# Altium integrated library Xilinx Spartan-3E.IntLib: 220 symbols (part 14 of 28)
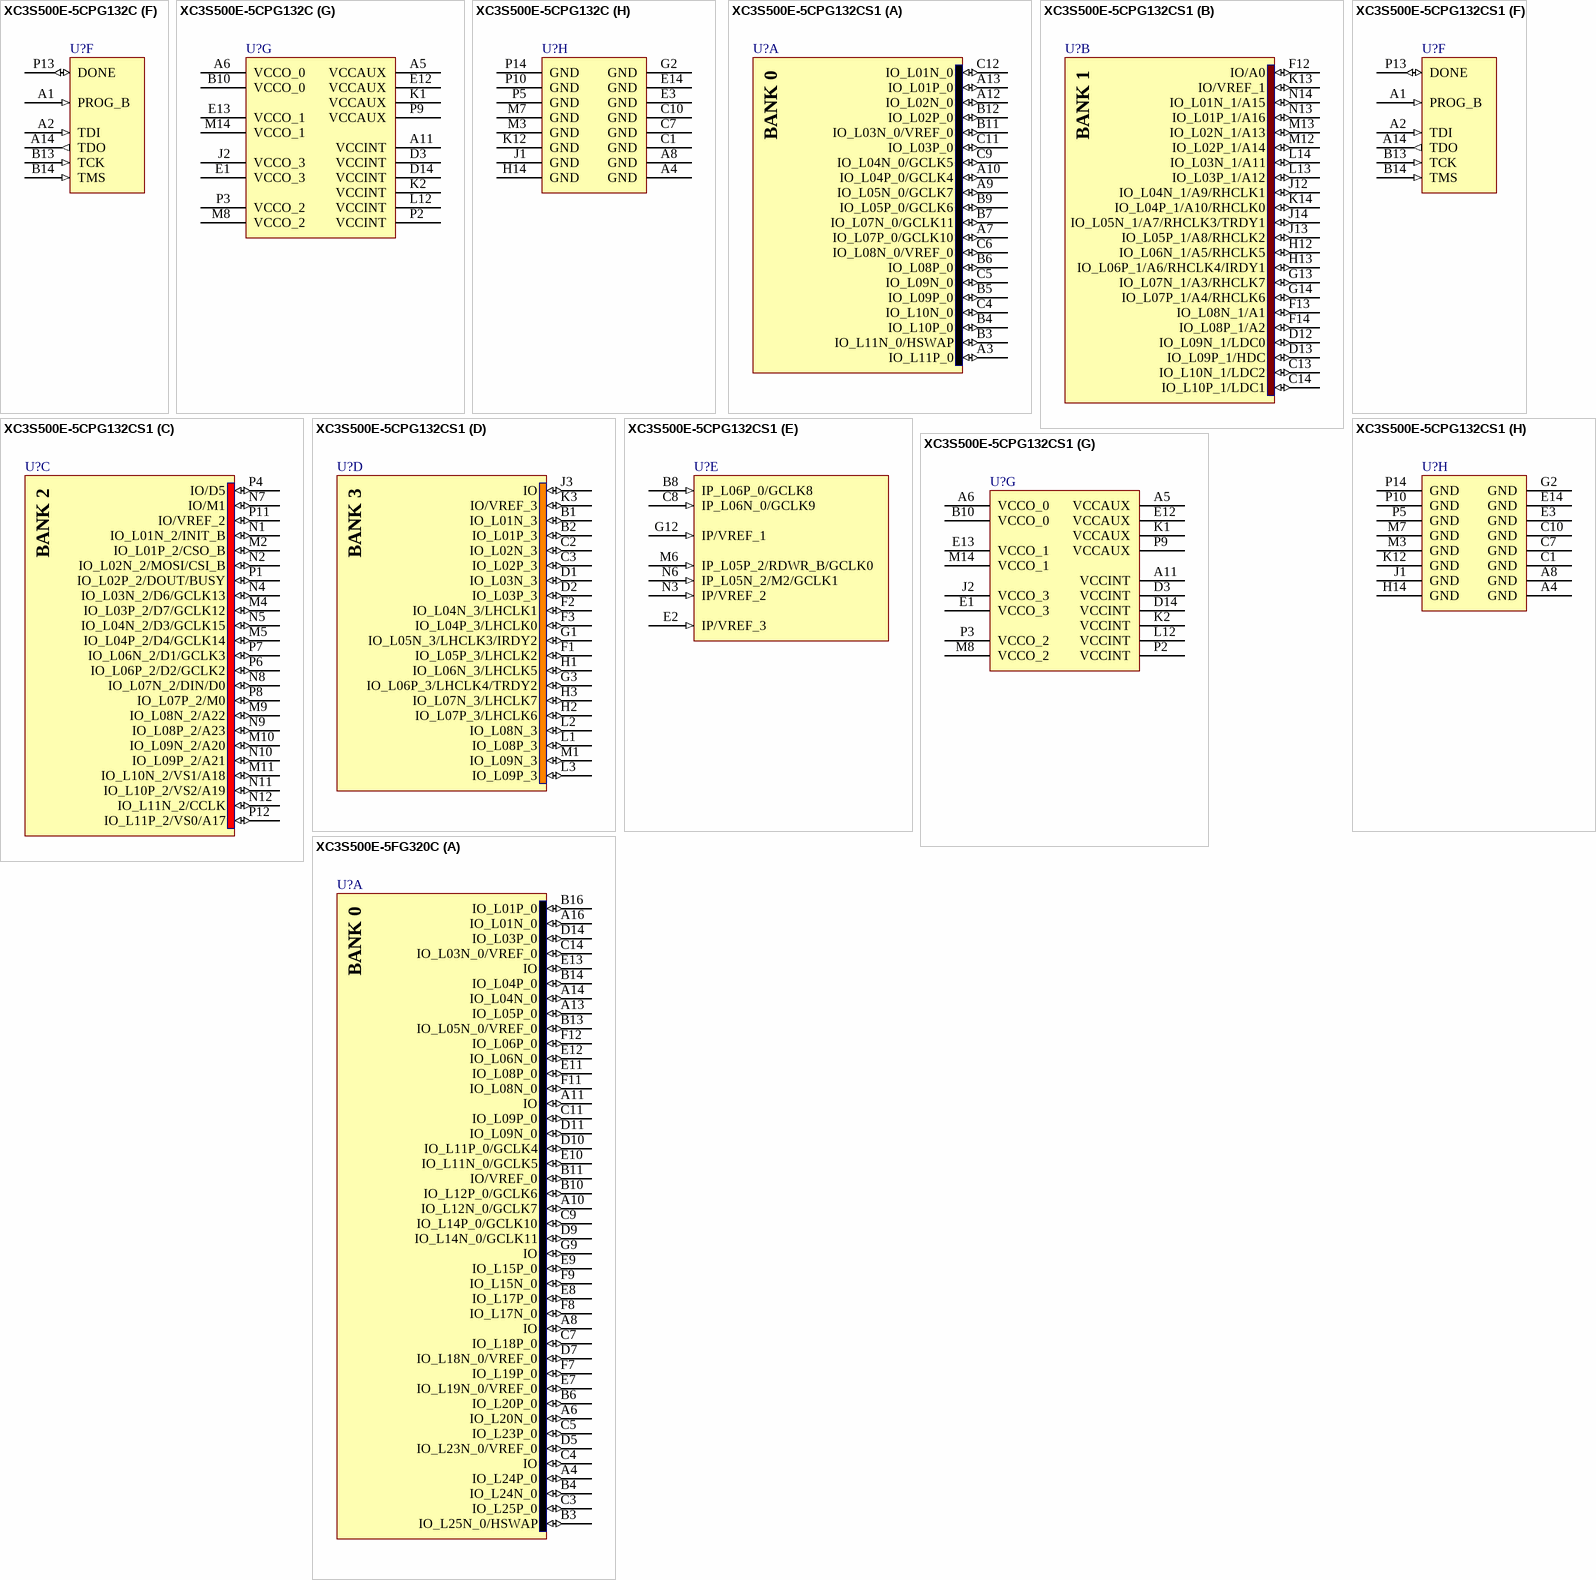
[diagram p207: symbols XC3S500E-5CPG132C to XC3S500E-5FG320C]

## XC3S500E-5CPG132CS1
designator U?
Spartan-3E 1.2V FPGA, 92 User I/Os, 132-Ball Chip-Scale BGA, High Performance, Commercial Grade, Stepping 1, Pb-Free; DatasheetVersion: ver3.8, Aug-2009; PackageVersion: ver1.3, Jun-2008; PackageReference: CPG132; PackageDescription: 132-Ball Chip Scale Ball Grid Array 0.5 mm Pitch (CPG132) - Pb-Free; ComponentLink1Description: Manufacturer URL; ComponentLink1URL: http://www.xilinx.com/; ComponentLink2Description: Spartan-3E Datasheet; ComponentLink2URL: http://www.xilinx.com/support/documentation/data_sheets/ds312.pdf; ComponentLink3Description: CPG132 Package Drawing; ComponentLink3URL: http://www.xilinx.com/support/documentation/package_specs/cp132.pdf; ComponentLink4Description: Spartan-3E Documents; ComponentLink4URL: http://www.xilinx.com/support/documentation/spartan-3e.htm
footprint CPG132 (BGA, 132-Leads, Body 8x8mm, Pitch 0.5mm)
part A pins: A3 IO_L11P_0 (io), A7 IO_L07P_0/GCLK10 (io), A9 IO_L05N_0/GCLK7 (io), A10 IO_L04P_0/GCLK4 (io), A12 IO_L02N_0 (io), A13 IO_L01P_0 (io), B3 IO_L11N_0/HSWAP (io), B4 IO_L10P_0 (io), B5 IO_L09P_0 (io), B6 IO_L08P_0 (io), B7 IO_L07N_0/GCLK11 (io), B9 IO_L05P_0/GCLK6 (io), B11 IO_L03N_0/VREF_0 (io), B12 IO_L02P_0 (io), C4 IO_L10N_0 (io), C5 IO_L09N_0 (io), C6 IO_L08N_0/VREF_0 (io), C9 IO_L04N_0/GCLK5 (io), C11 IO_L03P_0 (io), C12 IO_L01N_0 (io)
part B pins: C13 IO_L10N_1/LDC2 (io), C14 IO_L10P_1/LDC1 (io), D12 IO_L09N_1/LDC0 (io), D13 IO_L09P_1/HDC (io), F12 IO/A0 (io), F13 IO_L08N_1/A1 (io), F14 IO_L08P_1/A2 (io), G13 IO_L07N_1/A3/RHCLK7 (io), G14 IO_L07P_1/A4/RHCLK6 (io), H12 IO_L06N_1/A5/RHCLK5 (io), H13 IO_L06P_1/A6/RHCLK4/IRDY1 (io), J12 IO_L04N_1/A9/RHCLK1 (io), J13 IO_L05P_1/A8/RHCLK2 (io), J14 IO_L05N_1/A7/RHCLK3/TRDY1 (io), K13 IO/VREF_1 (io), K14 IO_L04P_1/A10/RHCLK0 (io), L13 IO_L03P_1/A12 (io), L14 IO_L03N_1/A11 (io), M12 IO_L02P_1/A14 (io), M13 IO_L02N_1/A13 (io), N13 IO_L01P_1/A16 (io), N14 IO_L01N_1/A15 (io)
part C pins: M2 IO_L01P_2/CSO_B (io), M4 IO_L03P_2/D7/GCLK12 (io), M5 IO_L04P_2/D4/GCLK14 (io), M9 IO_L08N_2/A22 (io), M10 IO_L09N_2/A20 (io), M11 IO_L10N_2/VS1/A18 (io), N1 IO_L01N_2/INIT_B (io), N2 IO_L02N_2/MOSI/CSI_B (io), N4 IO_L03N_2/D6/GCLK13 (io), N5 IO_L04N_2/D3/GCLK15 (io), N7 IO/M1 (io), N8 IO_L07N_2/DIN/D0 (io), N9 IO_L08P_2/A23 (io), N10 IO_L09P_2/A21 (io), N11 IO_L10P_2/VS2/A19 (io), N12 IO_L11N_2/CCLK (io), P1 IO_L02P_2/DOUT/BUSY (io), P4 IO/D5 (io), P6 IO_L06P_2/D2/GCLK2 (io), P7 IO_L06N_2/D1/GCLK3 (io), P8 IO_L07P_2/M0 (io), P11 IO/VREF_2 (io), P12 IO_L11P_2/VS0/A17 (io)
part D pins: B1 IO_L01N_3 (io), B2 IO_L01P_3 (io), C2 IO_L02N_3 (io), C3 IO_L02P_3 (io), D1 IO_L03N_3 (io), D2 IO_L03P_3 (io), F1 IO_L05P_3/LHCLK2 (io), F2 IO_L04N_3/LHCLK1 (io), F3 IO_L04P_3/LHCLK0 (io), G1 IO_L05N_3/LHCLK3/IRDY2 (io), G3 IO_L06P_3/LHCLK4/TRDY2 (io), H1 IO_L06N_3/LHCLK5 (io), H2 IO_L07P_3/LHCLK6 (io), H3 IO_L07N_3/LHCLK7 (io), J3 IO (io), K3 IO/VREF_3 (io), L1 IO_L08P_3 (io), L2 IO_L08N_3 (io), L3 IO_L09P_3 (io), M1 IO_L09N_3 (io)
part E pins: B8 IP_L06P_0/GCLK8 (in), C8 IP_L06N_0/GCLK9 (in), E2 IP/VREF_3 (in), G12 IP/VREF_1 (in), M6 IP_L05P_2/RDWR_B/GCLK0 (in), N3 IP/VREF_2 (in), N6 IP_L05N_2/M2/GCLK1 (in)
part F pins: A1 PROG_B (in), A2 TDI (in), A14 TDO (out), B13 TCK (in), B14 TMS (in), P13 DONE (io)
part G pins: A5 VCCAUX (power), A6 VCCO_0 (power), A11 VCCINT (power), B10 VCCO_0 (power), D3 VCCINT (power), D14 VCCINT (power), E1 VCCO_3 (power), E12 VCCAUX (power), E13 VCCO_1 (power), J2 VCCO_3 (power), K1 VCCAUX (power), K2 VCCINT (power), L12 VCCINT (power), M8 VCCO_2 (power), M14 VCCO_1 (power), P2 VCCINT (power), P3 VCCO_2 (power), P9 VCCAUX (power)
part H pins: A4 GND (power), A8 GND (power), C1 GND (power), C7 GND (power), C10 GND (power), E3 GND (power), E14 GND (power), G2 GND (power), H14 GND (power), J1 GND (power), K12 GND (power), M3 GND (power), M7 GND (power), P5 GND (power), P10 GND (power), P14 GND (power)
part A text: BANK 0
part B text: BANK 1
part C text: BANK 2
part D text: BANK 3

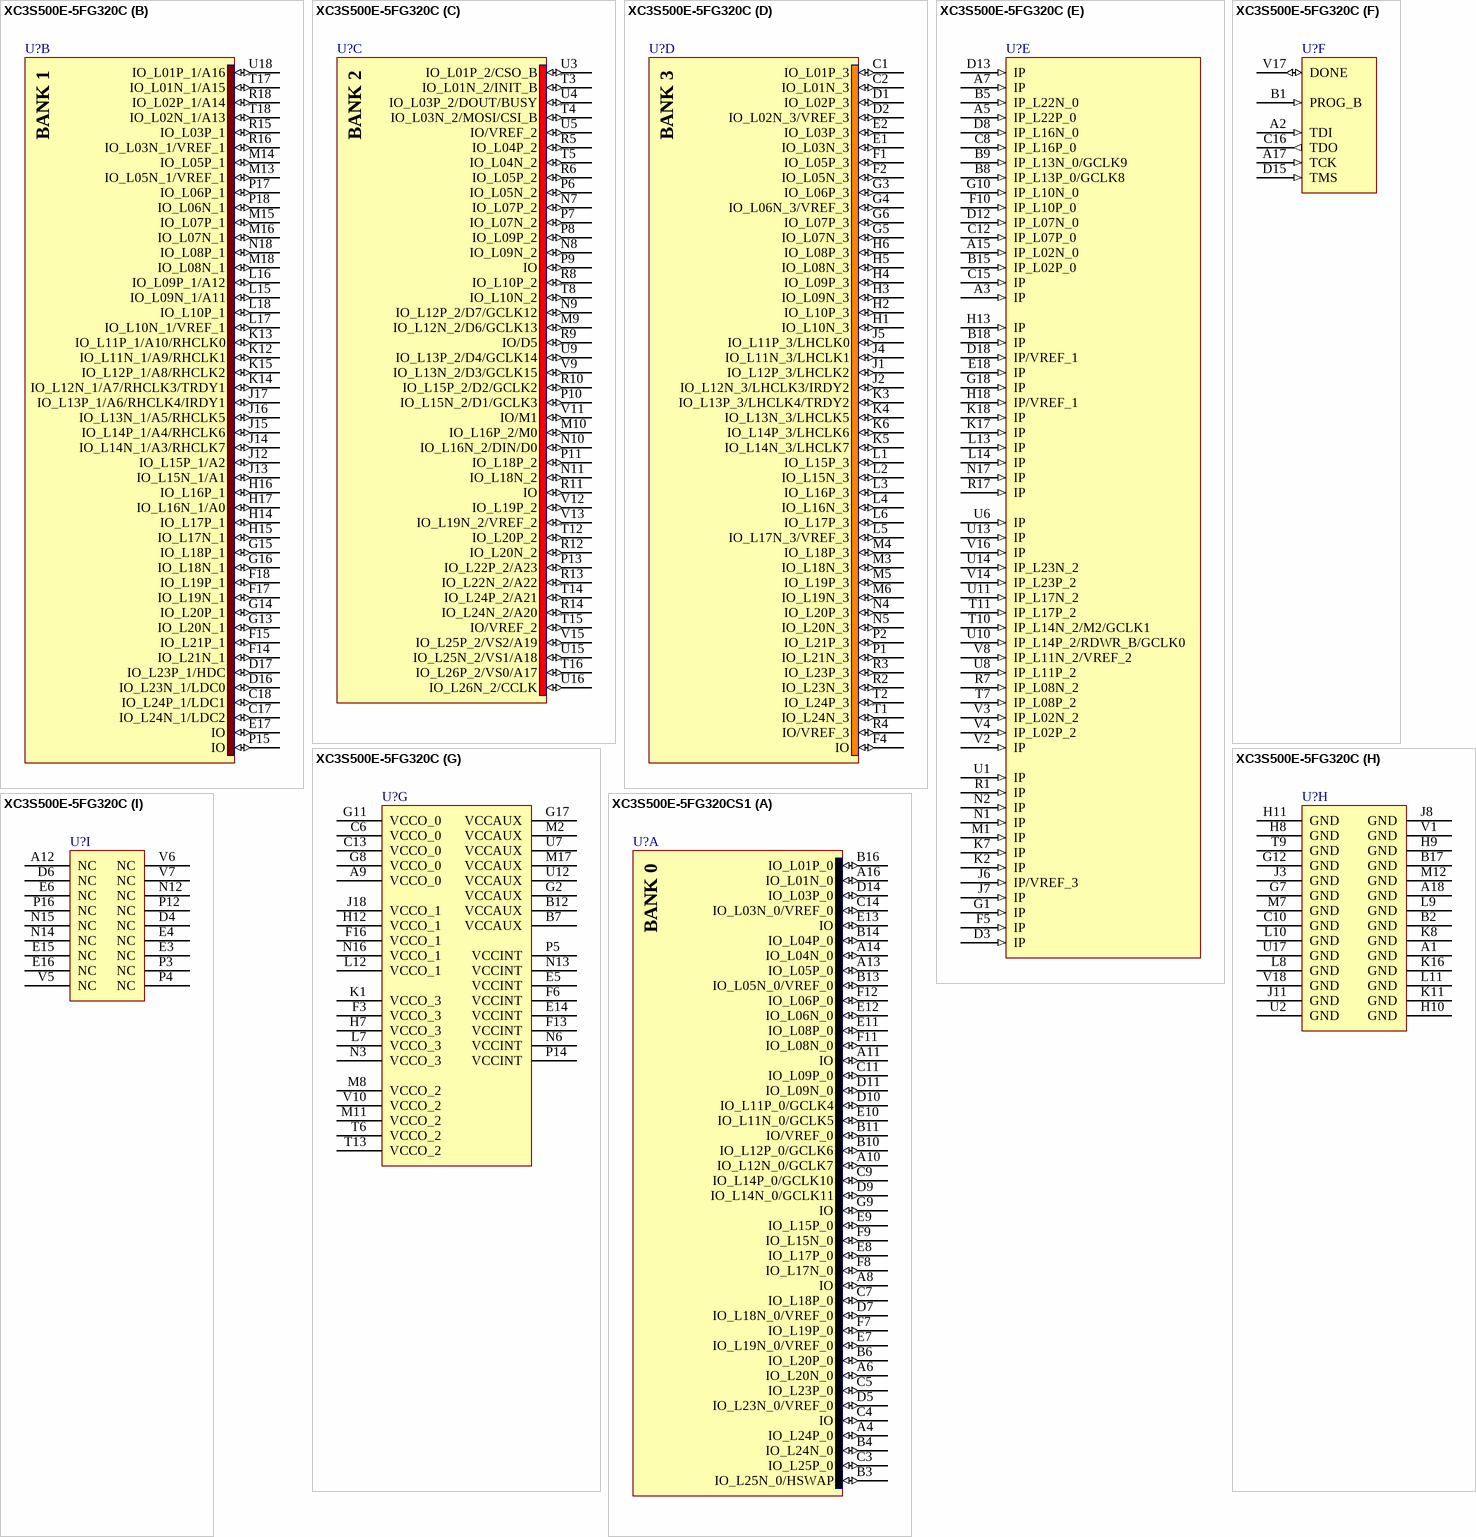
[diagram p82: symbols XC3S500E-5FG320C to XC3S500E-5FG320CS1]

## XC3S500E-5FG320C
designator U?
Spartan-3E 1.2V FPGA, 232 User I/Os, 320-Ball FBGA, High Performance, Commercial Grade; DatasheetVersion: ver3.8, Aug-2009; PackageVersion: ver1.2.1, Mar-2005; PackageReference: FG320; PackageDescription: 320-Ball Fine Pitch Ball Grid Array (FG320); Code_JEDEC: MS-034-AAG-1; ComponentLink1Description: Manufacturer URL; ComponentLink1URL: http://www.xilinx.com/; ComponentLink2Description: Spartan-3E Datasheet; ComponentLink2URL: http://www.xilinx.com/support/documentation/data_sheets/ds312.pdf; ComponentLink3Description: FG320 Package Drawing; ComponentLink3URL: http://www.xilinx.com/support/documentation/package_specs/fg320.pdf; ComponentLink4Description: Spartan-3E Documents; ComponentLink4URL: http://www.xilinx.com/support/documentation/spartan-3e.htm
footprint FG320 (BGA, 320-Leads, Body 19x19mm, Pitch 1mm)
part A pins: A4 IO_L24P_0 (io), A6 IO_L20N_0 (io), A8 IO (io), A10 IO_L12N_0/GCLK7 (io), A11 IO (io), A13 IO_L05P_0 (io), A14 IO_L04N_0 (io), A16 IO_L01N_0 (io), B3 IO_L25N_0/HSWAP (io), B4 IO_L24N_0 (io), B6 IO_L20P_0 (io), B10 IO_L12P_0/GCLK6 (io), B11 IO/VREF_0 (io), B13 IO_L05N_0/VREF_0 (io), B14 IO_L04P_0 (io), B16 IO_L01P_0 (io), C3 IO_L25P_0 (io), C4 IO (io), C5 IO_L23P_0 (io), C7 IO_L18P_0 (io), C9 IO_L14P_0/GCLK10 (io), C11 IO_L09P_0 (io), C14 IO_L03N_0/VREF_0 (io), D5 IO_L23N_0/VREF_0 (io), D7 IO_L18N_0/VREF_0 (io), D9 IO_L14N_0/GCLK11 (io), D10 IO_L11P_0/GCLK4 (io), D11 IO_L09N_0 (io), D14 IO_L03P_0 (io), E7 IO_L19N_0/VREF_0 (io), E8 IO_L17P_0 (io), E9 IO_L15P_0 (io), E10 IO_L11N_0/GCLK5 (io), E11 IO_L08P_0 (io), E12 IO_L06N_0 (io), E13 IO (io), F7 IO_L19P_0 (io), F8 IO_L17N_0 (io), F9 IO_L15N_0 (io), F11 IO_L08N_0 (io), F12 IO_L06P_0 (io), G9 IO (io)
part B pins: C17 IO_L24N_1/LDC2 (io), C18 IO_L24P_1/LDC1 (io), D16 IO_L23N_1/LDC0 (io), D17 IO_L23P_1/HDC (io), E17 IO (io), F14 IO_L21N_1 (io), F15 IO_L21P_1 (io), F17 IO_L19N_1 (io), F18 IO_L19P_1 (io), G13 IO_L20N_1 (io), G14 IO_L20P_1 (io), G15 IO_L18P_1 (io), G16 IO_L18N_1 (io), H14 IO_L17P_1 (io), H15 IO_L17N_1 (io), H16 IO_L16P_1 (io), H17 IO_L16N_1/A0 (io), J12 IO_L15P_1/A2 (io), J13 IO_L15N_1/A1 (io), J14 IO_L14N_1/A3/RHCLK7 (io), J15 IO_L14P_1/A4/RHCLK6 (io), J16 IO_L13N_1/A5/RHCLK5 (io), J17 IO_L13P_1/A6/RHCLK4/IRDY1 (io), K12 IO_L11N_1/A9/RHCLK1 (io), K13 IO_L11P_1/A10/RHCLK0 (io), K14 IO_L12N_1/A7/RHCLK3/TRDY1 (io), K15 IO_L12P_1/A8/RHCLK2 (io), L15 IO_L09N_1/A11 (io), L16 IO_L09P_1/A12 (io), L17 IO_L10N_1/VREF_1 (io), L18 IO_L10P_1 (io), M13 IO_L05N_1/VREF_1 (io), M14 IO_L05P_1 (io), M15 IO_L07P_1 (io), M16 IO_L07N_1 (io), M18 IO_L08N_1 (io), N18 IO_L08P_1 (io), P15 IO (io), P17 IO_L06P_1 (io), P18 IO_L06N_1 (io), R15 IO_L03P_1 (io), R16 IO_L03N_1/VREF_1 (io), R18 IO_L02P_1/A14 (io), T17 IO_L01N_1/A15 (io), T18 IO_L02N_1/A13 (io), U18 IO_L01P_1/A16 (io)
part C pins: M9 IO_L12N_2/D6/GCLK13 (io), M10 IO_L16P_2/M0 (io), N7 IO_L07P_2 (io), N8 IO_L09N_2 (io), N9 IO_L12P_2/D7/GCLK12 (io), N10 IO_L16N_2/DIN/D0 (io), N11 IO_L18N_2 (io), P6 IO_L05N_2 (io), P7 IO_L07N_2 (io), P8 IO_L09P_2 (io), P9 IO (io), P10 IO_L15N_2/D1/GCLK3 (io), P11 IO_L18P_2 (io), P13 IO_L22P_2/A23 (io), R5 IO_L04P_2 (io), R6 IO_L05P_2 (io), R8 IO_L10P_2 (io), R9 IO/D5 (io), R10 IO_L15P_2/D2/GCLK2 (io), R11 IO (io), R12 IO_L20N_2 (io), R13 IO_L22N_2/A22 (io), R14 IO_L24N_2/A20 (io), T3 IO_L01N_2/INIT_B (io), T4 IO_L03N_2/MOSI/CSI_B (io), T5 IO_L04N_2 (io), T8 IO_L10N_2 (io), T12 IO_L20P_2 (io), T14 IO_L24P_2/A21 (io), T15 IO/VREF_2 (io), T16 IO_L26P_2/VS0/A17 (io), U3 IO_L01P_2/CSO_B (io), U4 IO_L03P_2/DOUT/BUSY (io), U5 IO/VREF_2 (io), U9 IO_L13P_2/D4/GCLK14 (io), U15 IO_L25N_2/VS1/A18 (io), U16 IO_L26N_2/CCLK (io), V9 IO_L13N_2/D3/GCLK15 (io), V11 IO/M1 (io), V12 IO_L19P_2 (io), V13 IO_L19N_2/VREF_2 (io), V15 IO_L25P_2/VS2/A19 (io)
part D pins: C1 IO_L01P_3 (io), C2 IO_L01N_3 (io), D1 IO_L02P_3 (io), D2 IO_L02N_3/VREF_3 (io), E1 IO_L03N_3 (io), E2 IO_L03P_3 (io), F1 IO_L05P_3 (io), F2 IO_L05N_3 (io), F4 IO (io), G3 IO_L06P_3 (io), G4 IO_L06N_3/VREF_3 (io), G5 IO_L07N_3 (io), G6 IO_L07P_3 (io), H1 IO_L10N_3 (io), H2 IO_L10P_3 (io), H3 IO_L09N_3 (io), H4 IO_L09P_3 (io), H5 IO_L08N_3 (io), H6 IO_L08P_3 (io), J1 IO_L12P_3/LHCLK2 (io), J2 IO_L12N_3/LHCLK3/IRDY2 (io), J4 IO_L11N_3/LHCLK1 (io), J5 IO_L11P_3/LHCLK0 (io), K3 IO_L13P_3/LHCLK4/TRDY2 (io), K4 IO_L13N_3/LHCLK5 (io), K5 IO_L14N_3/LHCLK7 (io), K6 IO_L14P_3/LHCLK6 (io), L1 IO_L15P_3 (io), L2 IO_L15N_3 (io), L3 IO_L16P_3 (io), L4 IO_L16N_3 (io), L5 IO_L17N_3/VREF_3 (io), L6 IO_L17P_3 (io), M3 IO_L18N_3 (io), M4 IO_L18P_3 (io), M5 IO_L19P_3 (io), M6 IO_L19N_3 (io), N4 IO_L20P_3 (io), N5 IO_L20N_3 (io), P1 IO_L21N_3 (io), P2 IO_L21P_3 (io), R2 IO_L23N_3 (io), R3 IO_L23P_3 (io), R4 IO/VREF_3 (io), T1 IO_L24N_3 (io), T2 IO_L24P_3 (io)
part E pins: A3 IP (in), A5 IP_L22P_0 (in), A7 IP (in), A15 IP_L02N_0 (in), B5 IP_L22N_0 (in), B8 IP_L13P_0/GCLK8 (in), B9 IP_L13N_0/GCLK9 (in), B15 IP_L02P_0 (in), B18 IP (in), C8 IP_L16P_0 (in), C12 IP_L07P_0 (in), C15 IP (in), D3 IP (in), D8 IP_L16N_0 (in), D12 IP_L07N_0 (in), D13 IP (in), D18 IP/VREF_1 (in), E18 IP (in), F5 IP (in), F10 IP_L10P_0 (in), G1 IP (in), G10 IP_L10N_0 (in), G18 IP (in), H13 IP (in), H18 IP/VREF_1 (in), J6 IP/VREF_3 (in), J7 IP (in), K2 IP (in), K7 IP (in), K17 IP (in), K18 IP (in), L13 IP (in), L14 IP (in), M1 IP (in), N1 IP (in), N2 IP (in), N17 IP (in), R1 IP (in), R7 IP_L08N_2 (in), R17 IP (in), T7 IP_L08P_2 (in), T10 IP_L14N_2/M2/GCLK1 (in), T11 IP_L17P_2 (in), U1 IP (in), U6 IP (in), U8 IP_L11P_2 (in), U10 IP_L14P_2/RDWR_B/GCLK0 (in), U11 IP_L17N_2 (in), U13 IP (in), U14 IP_L23N_2 (in), V2 IP (in), V3 IP_L02N_2 (in), V4 IP_L02P_2 (in), V8 IP_L11N_2/VREF_2 (in), V14 IP_L23P_2 (in), V16 IP (in)
part F pins: A2 TDI (in), A17 TCK (in), B1 PROG_B (in), C16 TDO (out), D15 TMS (in), V17 DONE (io)
part G pins: A9 VCCO_0 (power), B7 VCCAUX (power), B12 VCCAUX (power), C6 VCCO_0 (power), C13 VCCO_0 (power), E5 VCCINT (power), E14 VCCINT (power), F3 VCCO_3 (power), F6 VCCINT (power), F13 VCCINT (power), F16 VCCO_1 (power), G2 VCCAUX (power), G8 VCCO_0 (power), G11 VCCO_0 (power), G17 VCCAUX (power), H7 VCCO_3 (power), H12 VCCO_1 (power), J18 VCCO_1 (power), K1 VCCO_3 (power), L7 VCCO_3 (power), L12 VCCO_1 (power), M2 VCCAUX (power), M8 VCCO_2 (power), M11 VCCO_2 (power), M17 VCCAUX (power), N3 VCCO_3 (power), N6 VCCINT (power), N13 VCCINT (power), N16 VCCO_1 (power), P5 VCCINT (power), P14 VCCINT (power), T6 VCCO_2 (power), T13 VCCO_2 (power), U7 VCCAUX (power), U12 VCCAUX (power), V10 VCCO_2 (power)
part H pins: A1 GND (power), A18 GND (power), B2 GND (power), B17 GND (power), C10 GND (power), G7 GND (power), G12 GND (power), H8 GND (power), H9 GND (power), H10 GND (power), H11 GND (power), J3 GND (power), J8 GND (power), J11 GND (power), K8 GND (power), K11 GND (power), K16 GND (power), L8 GND (power), L9 GND (power), L10 GND (power), L11 GND (power), M7 GND (power), M12 GND (power), T9 GND (power), U2 GND (power), U17 GND (power), V1 GND (power), V18 GND (power)
part I pins: A12 NC, D4 NC, D6 NC, E3 NC, E4 NC, E6 NC, E15 NC, E16 NC, N12 NC, N14 NC, N15 NC, P3 NC, P4 NC, P12 NC, P16 NC, V5 NC, V6 NC, V7 NC
part A text: BANK 0
part B text: BANK 1
part C text: BANK 2
part D text: BANK 3

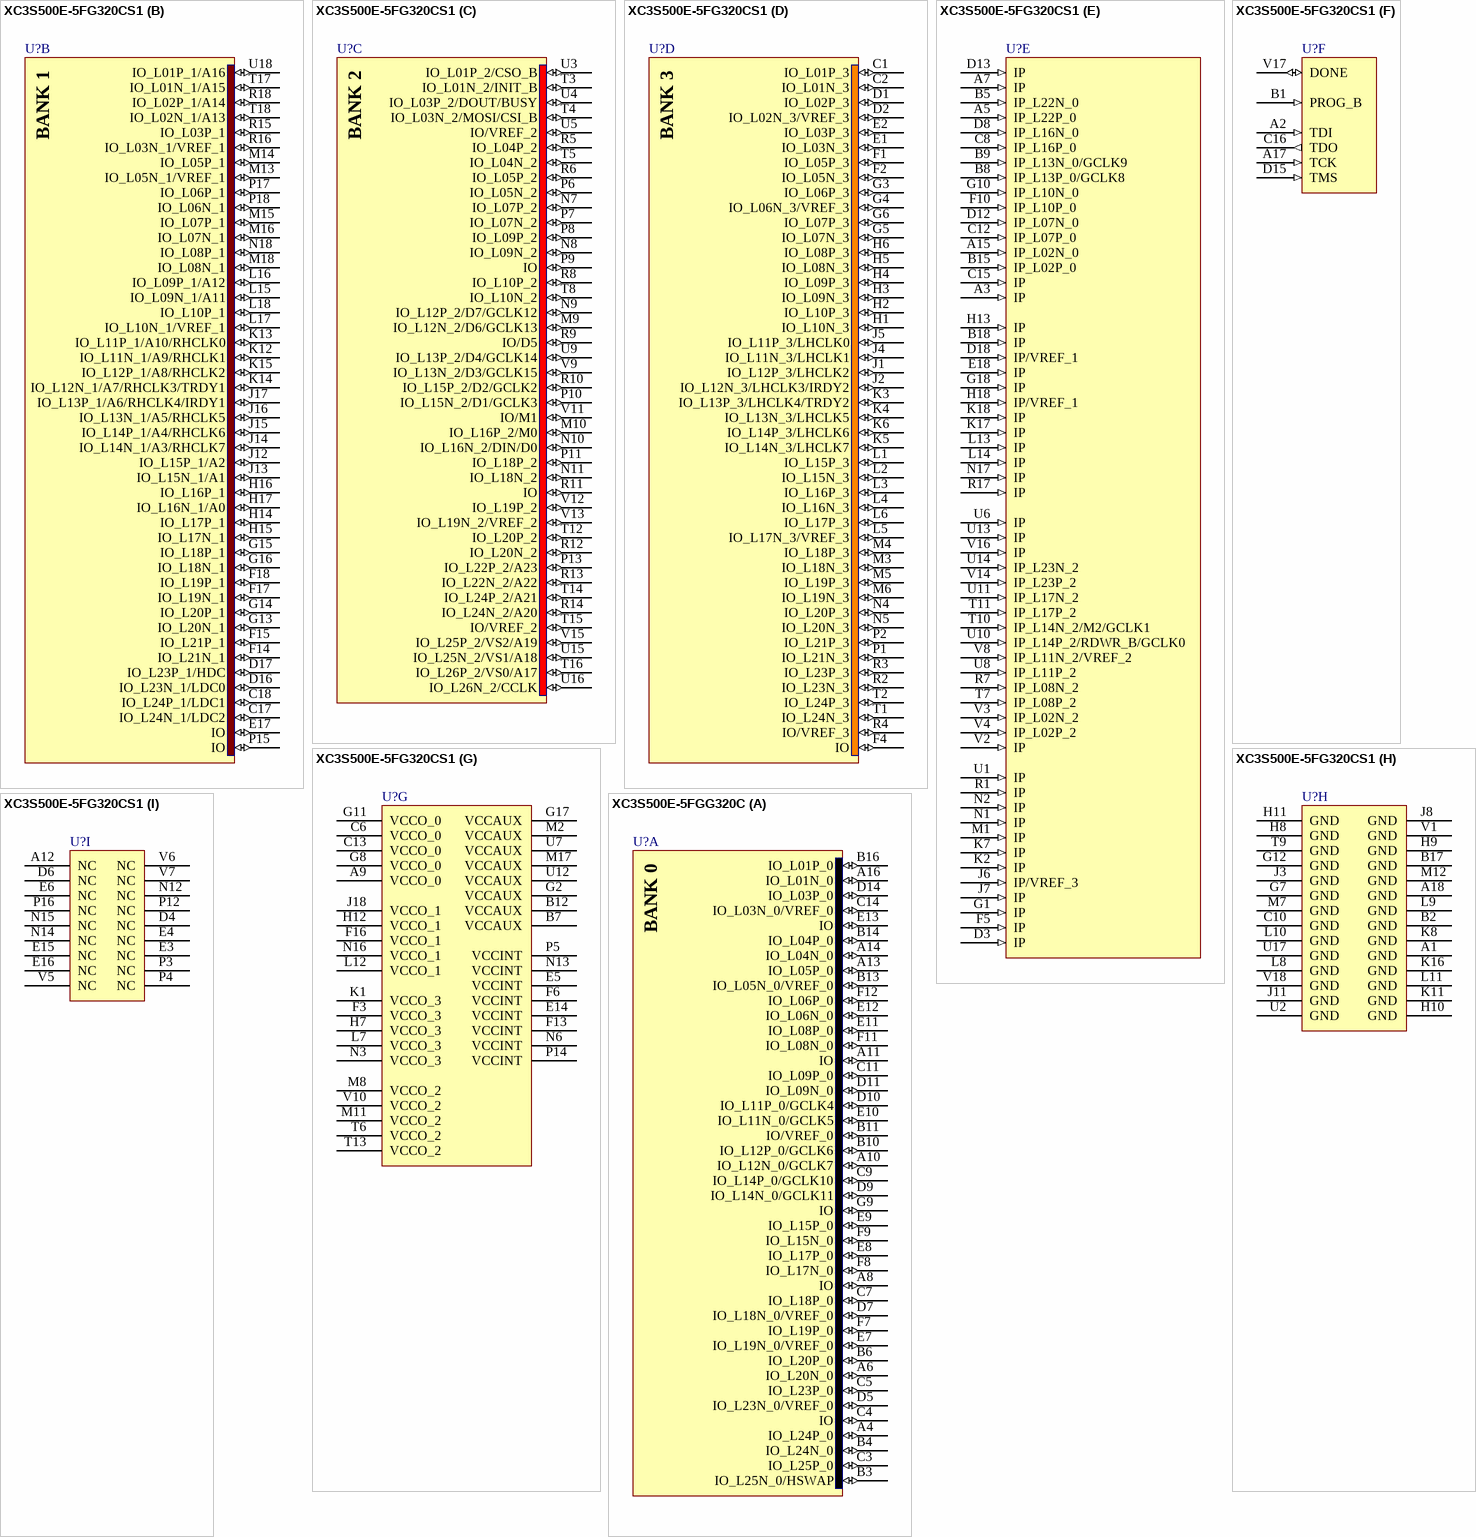
[diagram p83: symbols XC3S500E-5FG320CS1 to XC3S500E-5FGG320C]

## XC3S500E-5FG320CS1
designator U?
Spartan-3E 1.2V FPGA, 232 User I/Os, 320-Ball FBGA, High Performance, Commercial Grade, Stepping 1; DatasheetVersion: ver3.8, Aug-2009; PackageVersion: ver1.2.1, Mar-2005; PackageReference: FG320; PackageDescription: 320-Ball Fine Pitch Ball Grid Array (FG320); Code_JEDEC: MS-034-AAG-1; ComponentLink1Description: Manufacturer URL; ComponentLink1URL: http://www.xilinx.com/; ComponentLink2Description: Spartan-3E Datasheet; ComponentLink2URL: http://www.xilinx.com/support/documentation/data_sheets/ds312.pdf; ComponentLink3Description: FG320 Package Drawing; ComponentLink3URL: http://www.xilinx.com/support/documentation/package_specs/fg320.pdf; ComponentLink4Description: Spartan-3E Documents; ComponentLink4URL: http://www.xilinx.com/support/documentation/spartan-3e.htm
footprint FG320 (BGA, 320-Leads, Body 19x19mm, Pitch 1mm)
part A pins: A4 IO_L24P_0 (io), A6 IO_L20N_0 (io), A8 IO (io), A10 IO_L12N_0/GCLK7 (io), A11 IO (io), A13 IO_L05P_0 (io), A14 IO_L04N_0 (io), A16 IO_L01N_0 (io), B3 IO_L25N_0/HSWAP (io), B4 IO_L24N_0 (io), B6 IO_L20P_0 (io), B10 IO_L12P_0/GCLK6 (io), B11 IO/VREF_0 (io), B13 IO_L05N_0/VREF_0 (io), B14 IO_L04P_0 (io), B16 IO_L01P_0 (io), C3 IO_L25P_0 (io), C4 IO (io), C5 IO_L23P_0 (io), C7 IO_L18P_0 (io), C9 IO_L14P_0/GCLK10 (io), C11 IO_L09P_0 (io), C14 IO_L03N_0/VREF_0 (io), D5 IO_L23N_0/VREF_0 (io), D7 IO_L18N_0/VREF_0 (io), D9 IO_L14N_0/GCLK11 (io), D10 IO_L11P_0/GCLK4 (io), D11 IO_L09N_0 (io), D14 IO_L03P_0 (io), E7 IO_L19N_0/VREF_0 (io), E8 IO_L17P_0 (io), E9 IO_L15P_0 (io), E10 IO_L11N_0/GCLK5 (io), E11 IO_L08P_0 (io), E12 IO_L06N_0 (io), E13 IO (io), F7 IO_L19P_0 (io), F8 IO_L17N_0 (io), F9 IO_L15N_0 (io), F11 IO_L08N_0 (io), F12 IO_L06P_0 (io), G9 IO (io)
part B pins: C17 IO_L24N_1/LDC2 (io), C18 IO_L24P_1/LDC1 (io), D16 IO_L23N_1/LDC0 (io), D17 IO_L23P_1/HDC (io), E17 IO (io), F14 IO_L21N_1 (io), F15 IO_L21P_1 (io), F17 IO_L19N_1 (io), F18 IO_L19P_1 (io), G13 IO_L20N_1 (io), G14 IO_L20P_1 (io), G15 IO_L18P_1 (io), G16 IO_L18N_1 (io), H14 IO_L17P_1 (io), H15 IO_L17N_1 (io), H16 IO_L16P_1 (io), H17 IO_L16N_1/A0 (io), J12 IO_L15P_1/A2 (io), J13 IO_L15N_1/A1 (io), J14 IO_L14N_1/A3/RHCLK7 (io), J15 IO_L14P_1/A4/RHCLK6 (io), J16 IO_L13N_1/A5/RHCLK5 (io), J17 IO_L13P_1/A6/RHCLK4/IRDY1 (io), K12 IO_L11N_1/A9/RHCLK1 (io), K13 IO_L11P_1/A10/RHCLK0 (io), K14 IO_L12N_1/A7/RHCLK3/TRDY1 (io), K15 IO_L12P_1/A8/RHCLK2 (io), L15 IO_L09N_1/A11 (io), L16 IO_L09P_1/A12 (io), L17 IO_L10N_1/VREF_1 (io), L18 IO_L10P_1 (io), M13 IO_L05N_1/VREF_1 (io), M14 IO_L05P_1 (io), M15 IO_L07P_1 (io), M16 IO_L07N_1 (io), M18 IO_L08N_1 (io), N18 IO_L08P_1 (io), P15 IO (io), P17 IO_L06P_1 (io), P18 IO_L06N_1 (io), R15 IO_L03P_1 (io), R16 IO_L03N_1/VREF_1 (io), R18 IO_L02P_1/A14 (io), T17 IO_L01N_1/A15 (io), T18 IO_L02N_1/A13 (io), U18 IO_L01P_1/A16 (io)
part C pins: M9 IO_L12N_2/D6/GCLK13 (io), M10 IO_L16P_2/M0 (io), N7 IO_L07P_2 (io), N8 IO_L09N_2 (io), N9 IO_L12P_2/D7/GCLK12 (io), N10 IO_L16N_2/DIN/D0 (io), N11 IO_L18N_2 (io), P6 IO_L05N_2 (io), P7 IO_L07N_2 (io), P8 IO_L09P_2 (io), P9 IO (io), P10 IO_L15N_2/D1/GCLK3 (io), P11 IO_L18P_2 (io), P13 IO_L22P_2/A23 (io), R5 IO_L04P_2 (io), R6 IO_L05P_2 (io), R8 IO_L10P_2 (io), R9 IO/D5 (io), R10 IO_L15P_2/D2/GCLK2 (io), R11 IO (io), R12 IO_L20N_2 (io), R13 IO_L22N_2/A22 (io), R14 IO_L24N_2/A20 (io), T3 IO_L01N_2/INIT_B (io), T4 IO_L03N_2/MOSI/CSI_B (io), T5 IO_L04N_2 (io), T8 IO_L10N_2 (io), T12 IO_L20P_2 (io), T14 IO_L24P_2/A21 (io), T15 IO/VREF_2 (io), T16 IO_L26P_2/VS0/A17 (io), U3 IO_L01P_2/CSO_B (io), U4 IO_L03P_2/DOUT/BUSY (io), U5 IO/VREF_2 (io), U9 IO_L13P_2/D4/GCLK14 (io), U15 IO_L25N_2/VS1/A18 (io), U16 IO_L26N_2/CCLK (io), V9 IO_L13N_2/D3/GCLK15 (io), V11 IO/M1 (io), V12 IO_L19P_2 (io), V13 IO_L19N_2/VREF_2 (io), V15 IO_L25P_2/VS2/A19 (io)
part D pins: C1 IO_L01P_3 (io), C2 IO_L01N_3 (io), D1 IO_L02P_3 (io), D2 IO_L02N_3/VREF_3 (io), E1 IO_L03N_3 (io), E2 IO_L03P_3 (io), F1 IO_L05P_3 (io), F2 IO_L05N_3 (io), F4 IO (io), G3 IO_L06P_3 (io), G4 IO_L06N_3/VREF_3 (io), G5 IO_L07N_3 (io), G6 IO_L07P_3 (io), H1 IO_L10N_3 (io), H2 IO_L10P_3 (io), H3 IO_L09N_3 (io), H4 IO_L09P_3 (io), H5 IO_L08N_3 (io), H6 IO_L08P_3 (io), J1 IO_L12P_3/LHCLK2 (io), J2 IO_L12N_3/LHCLK3/IRDY2 (io), J4 IO_L11N_3/LHCLK1 (io), J5 IO_L11P_3/LHCLK0 (io), K3 IO_L13P_3/LHCLK4/TRDY2 (io), K4 IO_L13N_3/LHCLK5 (io), K5 IO_L14N_3/LHCLK7 (io), K6 IO_L14P_3/LHCLK6 (io), L1 IO_L15P_3 (io), L2 IO_L15N_3 (io), L3 IO_L16P_3 (io), L4 IO_L16N_3 (io), L5 IO_L17N_3/VREF_3 (io), L6 IO_L17P_3 (io), M3 IO_L18N_3 (io), M4 IO_L18P_3 (io), M5 IO_L19P_3 (io), M6 IO_L19N_3 (io), N4 IO_L20P_3 (io), N5 IO_L20N_3 (io), P1 IO_L21N_3 (io), P2 IO_L21P_3 (io), R2 IO_L23N_3 (io), R3 IO_L23P_3 (io), R4 IO/VREF_3 (io), T1 IO_L24N_3 (io), T2 IO_L24P_3 (io)
part E pins: A3 IP (in), A5 IP_L22P_0 (in), A7 IP (in), A15 IP_L02N_0 (in), B5 IP_L22N_0 (in), B8 IP_L13P_0/GCLK8 (in), B9 IP_L13N_0/GCLK9 (in), B15 IP_L02P_0 (in), B18 IP (in), C8 IP_L16P_0 (in), C12 IP_L07P_0 (in), C15 IP (in), D3 IP (in), D8 IP_L16N_0 (in), D12 IP_L07N_0 (in), D13 IP (in), D18 IP/VREF_1 (in), E18 IP (in), F5 IP (in), F10 IP_L10P_0 (in), G1 IP (in), G10 IP_L10N_0 (in), G18 IP (in), H13 IP (in), H18 IP/VREF_1 (in), J6 IP/VREF_3 (in), J7 IP (in), K2 IP (in), K7 IP (in), K17 IP (in), K18 IP (in), L13 IP (in), L14 IP (in), M1 IP (in), N1 IP (in), N2 IP (in), N17 IP (in), R1 IP (in), R7 IP_L08N_2 (in), R17 IP (in), T7 IP_L08P_2 (in), T10 IP_L14N_2/M2/GCLK1 (in), T11 IP_L17P_2 (in), U1 IP (in), U6 IP (in), U8 IP_L11P_2 (in), U10 IP_L14P_2/RDWR_B/GCLK0 (in), U11 IP_L17N_2 (in), U13 IP (in), U14 IP_L23N_2 (in), V2 IP (in), V3 IP_L02N_2 (in), V4 IP_L02P_2 (in), V8 IP_L11N_2/VREF_2 (in), V14 IP_L23P_2 (in), V16 IP (in)
part F pins: A2 TDI (in), A17 TCK (in), B1 PROG_B (in), C16 TDO (out), D15 TMS (in), V17 DONE (io)
part G pins: A9 VCCO_0 (power), B7 VCCAUX (power), B12 VCCAUX (power), C6 VCCO_0 (power), C13 VCCO_0 (power), E5 VCCINT (power), E14 VCCINT (power), F3 VCCO_3 (power), F6 VCCINT (power), F13 VCCINT (power), F16 VCCO_1 (power), G2 VCCAUX (power), G8 VCCO_0 (power), G11 VCCO_0 (power), G17 VCCAUX (power), H7 VCCO_3 (power), H12 VCCO_1 (power), J18 VCCO_1 (power), K1 VCCO_3 (power), L7 VCCO_3 (power), L12 VCCO_1 (power), M2 VCCAUX (power), M8 VCCO_2 (power), M11 VCCO_2 (power), M17 VCCAUX (power), N3 VCCO_3 (power), N6 VCCINT (power), N13 VCCINT (power), N16 VCCO_1 (power), P5 VCCINT (power), P14 VCCINT (power), T6 VCCO_2 (power), T13 VCCO_2 (power), U7 VCCAUX (power), U12 VCCAUX (power), V10 VCCO_2 (power)
part H pins: A1 GND (power), A18 GND (power), B2 GND (power), B17 GND (power), C10 GND (power), G7 GND (power), G12 GND (power), H8 GND (power), H9 GND (power), H10 GND (power), H11 GND (power), J3 GND (power), J8 GND (power), J11 GND (power), K8 GND (power), K11 GND (power), K16 GND (power), L8 GND (power), L9 GND (power), L10 GND (power), L11 GND (power), M7 GND (power), M12 GND (power), T9 GND (power), U2 GND (power), U17 GND (power), V1 GND (power), V18 GND (power)
part I pins: A12 NC, D4 NC, D6 NC, E3 NC, E4 NC, E6 NC, E15 NC, E16 NC, N12 NC, N14 NC, N15 NC, P3 NC, P4 NC, P12 NC, P16 NC, V5 NC, V6 NC, V7 NC
part A text: BANK 0
part B text: BANK 1
part C text: BANK 2
part D text: BANK 3

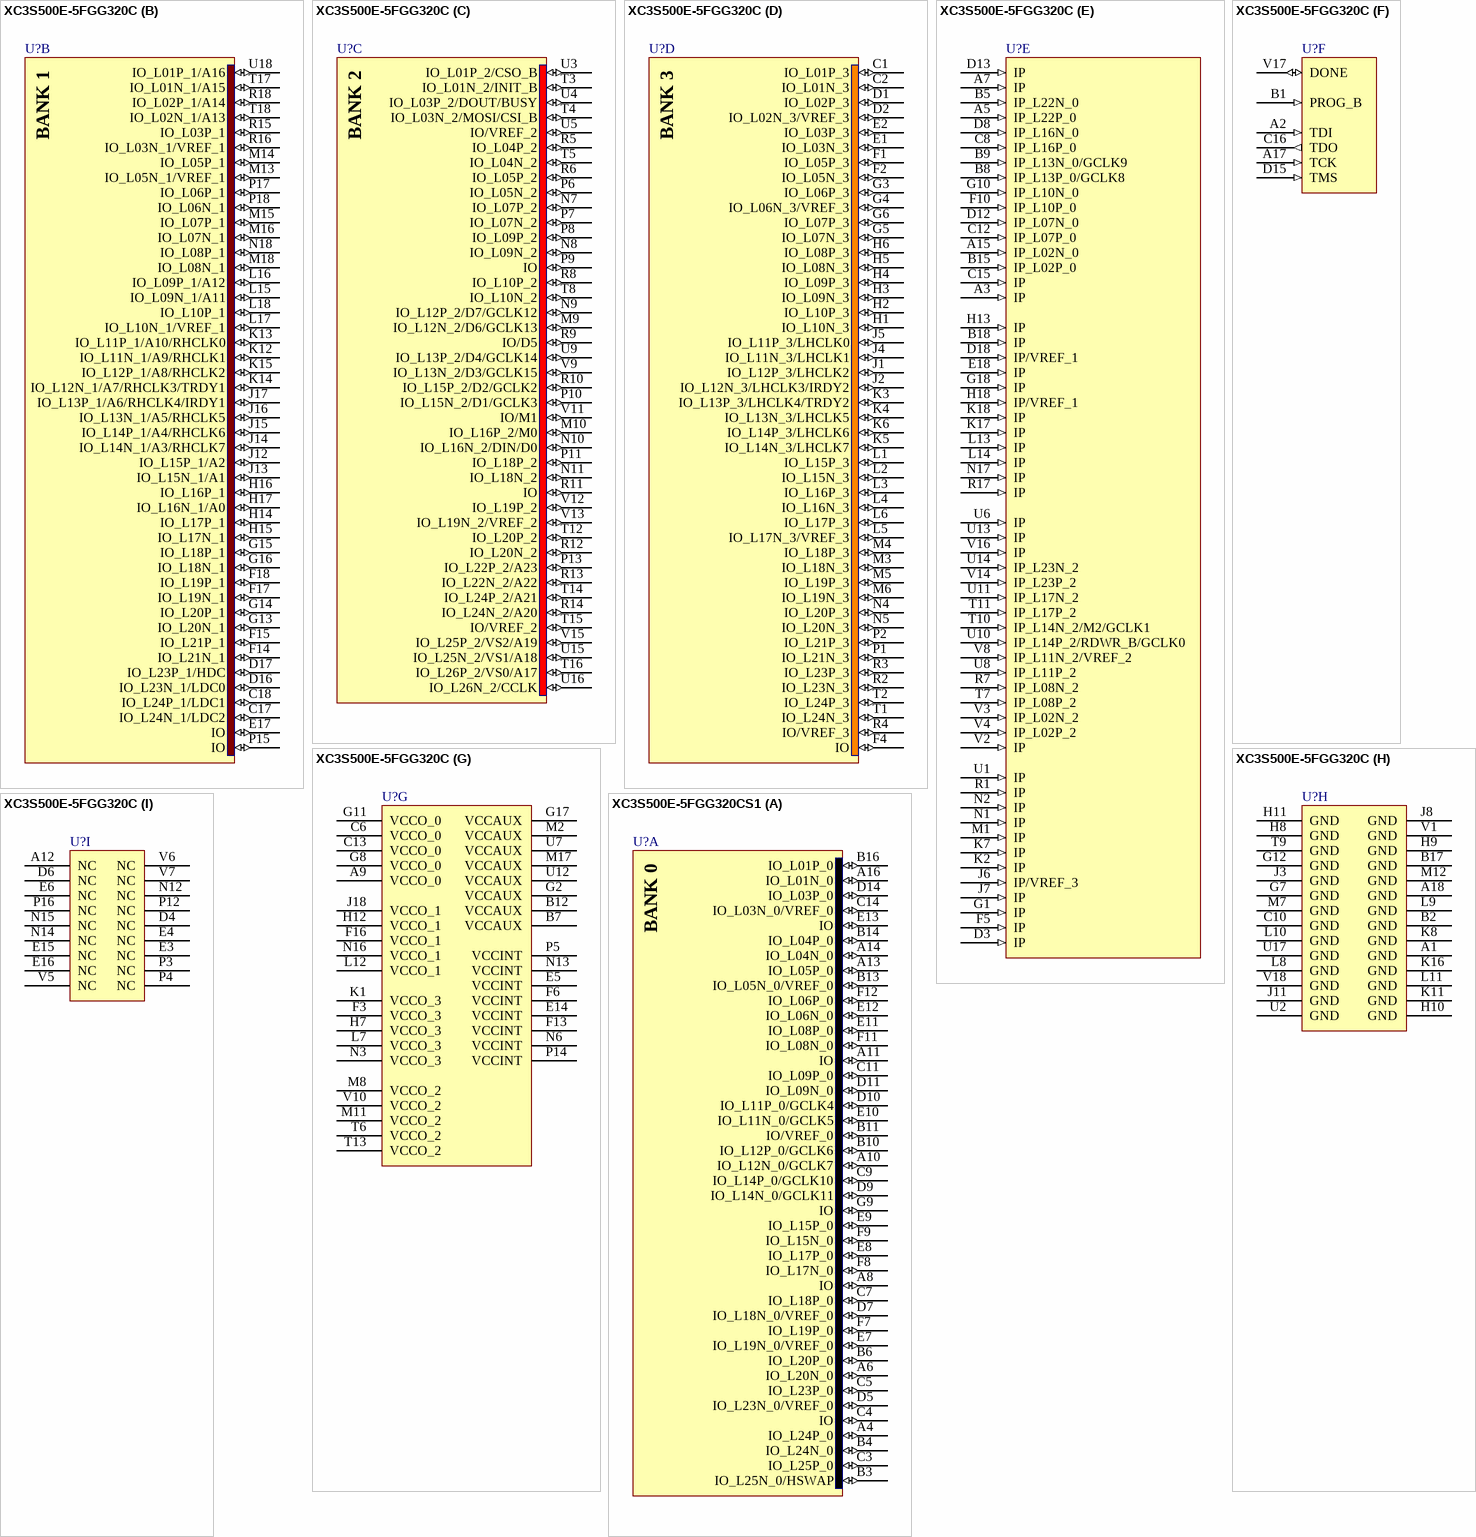
[diagram p84: symbols XC3S500E-5FGG320C to XC3S500E-5FGG320CS1]

## XC3S500E-5FGG320C
designator U?
Spartan-3E 1.2V FPGA, 232 User I/Os, 320-Ball FBGA, High Performance, Commercial Grade, Pb-Free; DatasheetVersion: ver3.8, Aug-2009; PackageVersion: ver1.2.1, Mar-2005; PackageReference: FGG320; PackageDescription: 320-Ball Fine Pitch Ball Grid Array (FGG320) - Pb-Free; Code_JEDEC: MS-034-AAG-1; ComponentLink1Description: Manufacturer URL; ComponentLink1URL: http://www.xilinx.com/; ComponentLink2Description: Spartan-3E Datasheet; ComponentLink2URL: http://www.xilinx.com/support/documentation/data_sheets/ds312.pdf; ComponentLink3Description: FGG320 Package Drawing; ComponentLink3URL: http://www.xilinx.com/support/documentation/package_specs/fg320.pdf; ComponentLink4Description: Spartan-3E Documents; ComponentLink4URL: http://www.xilinx.com/support/documentation/spartan-3e.htm
footprint FGG320 (BGA, 320-Leads, Body 19x19mm, Pitch 1mm)
part A pins: A4 IO_L24P_0 (io), A6 IO_L20N_0 (io), A8 IO (io), A10 IO_L12N_0/GCLK7 (io), A11 IO (io), A13 IO_L05P_0 (io), A14 IO_L04N_0 (io), A16 IO_L01N_0 (io), B3 IO_L25N_0/HSWAP (io), B4 IO_L24N_0 (io), B6 IO_L20P_0 (io), B10 IO_L12P_0/GCLK6 (io), B11 IO/VREF_0 (io), B13 IO_L05N_0/VREF_0 (io), B14 IO_L04P_0 (io), B16 IO_L01P_0 (io), C3 IO_L25P_0 (io), C4 IO (io), C5 IO_L23P_0 (io), C7 IO_L18P_0 (io), C9 IO_L14P_0/GCLK10 (io), C11 IO_L09P_0 (io), C14 IO_L03N_0/VREF_0 (io), D5 IO_L23N_0/VREF_0 (io), D7 IO_L18N_0/VREF_0 (io), D9 IO_L14N_0/GCLK11 (io), D10 IO_L11P_0/GCLK4 (io), D11 IO_L09N_0 (io), D14 IO_L03P_0 (io), E7 IO_L19N_0/VREF_0 (io), E8 IO_L17P_0 (io), E9 IO_L15P_0 (io), E10 IO_L11N_0/GCLK5 (io), E11 IO_L08P_0 (io), E12 IO_L06N_0 (io), E13 IO (io), F7 IO_L19P_0 (io), F8 IO_L17N_0 (io), F9 IO_L15N_0 (io), F11 IO_L08N_0 (io), F12 IO_L06P_0 (io), G9 IO (io)
part B pins: C17 IO_L24N_1/LDC2 (io), C18 IO_L24P_1/LDC1 (io), D16 IO_L23N_1/LDC0 (io), D17 IO_L23P_1/HDC (io), E17 IO (io), F14 IO_L21N_1 (io), F15 IO_L21P_1 (io), F17 IO_L19N_1 (io), F18 IO_L19P_1 (io), G13 IO_L20N_1 (io), G14 IO_L20P_1 (io), G15 IO_L18P_1 (io), G16 IO_L18N_1 (io), H14 IO_L17P_1 (io), H15 IO_L17N_1 (io), H16 IO_L16P_1 (io), H17 IO_L16N_1/A0 (io), J12 IO_L15P_1/A2 (io), J13 IO_L15N_1/A1 (io), J14 IO_L14N_1/A3/RHCLK7 (io), J15 IO_L14P_1/A4/RHCLK6 (io), J16 IO_L13N_1/A5/RHCLK5 (io), J17 IO_L13P_1/A6/RHCLK4/IRDY1 (io), K12 IO_L11N_1/A9/RHCLK1 (io), K13 IO_L11P_1/A10/RHCLK0 (io), K14 IO_L12N_1/A7/RHCLK3/TRDY1 (io), K15 IO_L12P_1/A8/RHCLK2 (io), L15 IO_L09N_1/A11 (io), L16 IO_L09P_1/A12 (io), L17 IO_L10N_1/VREF_1 (io), L18 IO_L10P_1 (io), M13 IO_L05N_1/VREF_1 (io), M14 IO_L05P_1 (io), M15 IO_L07P_1 (io), M16 IO_L07N_1 (io), M18 IO_L08N_1 (io), N18 IO_L08P_1 (io), P15 IO (io), P17 IO_L06P_1 (io), P18 IO_L06N_1 (io), R15 IO_L03P_1 (io), R16 IO_L03N_1/VREF_1 (io), R18 IO_L02P_1/A14 (io), T17 IO_L01N_1/A15 (io), T18 IO_L02N_1/A13 (io), U18 IO_L01P_1/A16 (io)
part C pins: M9 IO_L12N_2/D6/GCLK13 (io), M10 IO_L16P_2/M0 (io), N7 IO_L07P_2 (io), N8 IO_L09N_2 (io), N9 IO_L12P_2/D7/GCLK12 (io), N10 IO_L16N_2/DIN/D0 (io), N11 IO_L18N_2 (io), P6 IO_L05N_2 (io), P7 IO_L07N_2 (io), P8 IO_L09P_2 (io), P9 IO (io), P10 IO_L15N_2/D1/GCLK3 (io), P11 IO_L18P_2 (io), P13 IO_L22P_2/A23 (io), R5 IO_L04P_2 (io), R6 IO_L05P_2 (io), R8 IO_L10P_2 (io), R9 IO/D5 (io), R10 IO_L15P_2/D2/GCLK2 (io), R11 IO (io), R12 IO_L20N_2 (io), R13 IO_L22N_2/A22 (io), R14 IO_L24N_2/A20 (io), T3 IO_L01N_2/INIT_B (io), T4 IO_L03N_2/MOSI/CSI_B (io), T5 IO_L04N_2 (io), T8 IO_L10N_2 (io), T12 IO_L20P_2 (io), T14 IO_L24P_2/A21 (io), T15 IO/VREF_2 (io), T16 IO_L26P_2/VS0/A17 (io), U3 IO_L01P_2/CSO_B (io), U4 IO_L03P_2/DOUT/BUSY (io), U5 IO/VREF_2 (io), U9 IO_L13P_2/D4/GCLK14 (io), U15 IO_L25N_2/VS1/A18 (io), U16 IO_L26N_2/CCLK (io), V9 IO_L13N_2/D3/GCLK15 (io), V11 IO/M1 (io), V12 IO_L19P_2 (io), V13 IO_L19N_2/VREF_2 (io), V15 IO_L25P_2/VS2/A19 (io)
part D pins: C1 IO_L01P_3 (io), C2 IO_L01N_3 (io), D1 IO_L02P_3 (io), D2 IO_L02N_3/VREF_3 (io), E1 IO_L03N_3 (io), E2 IO_L03P_3 (io), F1 IO_L05P_3 (io), F2 IO_L05N_3 (io), F4 IO (io), G3 IO_L06P_3 (io), G4 IO_L06N_3/VREF_3 (io), G5 IO_L07N_3 (io), G6 IO_L07P_3 (io), H1 IO_L10N_3 (io), H2 IO_L10P_3 (io), H3 IO_L09N_3 (io), H4 IO_L09P_3 (io), H5 IO_L08N_3 (io), H6 IO_L08P_3 (io), J1 IO_L12P_3/LHCLK2 (io), J2 IO_L12N_3/LHCLK3/IRDY2 (io), J4 IO_L11N_3/LHCLK1 (io), J5 IO_L11P_3/LHCLK0 (io), K3 IO_L13P_3/LHCLK4/TRDY2 (io), K4 IO_L13N_3/LHCLK5 (io), K5 IO_L14N_3/LHCLK7 (io), K6 IO_L14P_3/LHCLK6 (io), L1 IO_L15P_3 (io), L2 IO_L15N_3 (io), L3 IO_L16P_3 (io), L4 IO_L16N_3 (io), L5 IO_L17N_3/VREF_3 (io), L6 IO_L17P_3 (io), M3 IO_L18N_3 (io), M4 IO_L18P_3 (io), M5 IO_L19P_3 (io), M6 IO_L19N_3 (io), N4 IO_L20P_3 (io), N5 IO_L20N_3 (io), P1 IO_L21N_3 (io), P2 IO_L21P_3 (io), R2 IO_L23N_3 (io), R3 IO_L23P_3 (io), R4 IO/VREF_3 (io), T1 IO_L24N_3 (io), T2 IO_L24P_3 (io)
part E pins: A3 IP (in), A5 IP_L22P_0 (in), A7 IP (in), A15 IP_L02N_0 (in), B5 IP_L22N_0 (in), B8 IP_L13P_0/GCLK8 (in), B9 IP_L13N_0/GCLK9 (in), B15 IP_L02P_0 (in), B18 IP (in), C8 IP_L16P_0 (in), C12 IP_L07P_0 (in), C15 IP (in), D3 IP (in), D8 IP_L16N_0 (in), D12 IP_L07N_0 (in), D13 IP (in), D18 IP/VREF_1 (in), E18 IP (in), F5 IP (in), F10 IP_L10P_0 (in), G1 IP (in), G10 IP_L10N_0 (in), G18 IP (in), H13 IP (in), H18 IP/VREF_1 (in), J6 IP/VREF_3 (in), J7 IP (in), K2 IP (in), K7 IP (in), K17 IP (in), K18 IP (in), L13 IP (in), L14 IP (in), M1 IP (in), N1 IP (in), N2 IP (in), N17 IP (in), R1 IP (in), R7 IP_L08N_2 (in), R17 IP (in), T7 IP_L08P_2 (in), T10 IP_L14N_2/M2/GCLK1 (in), T11 IP_L17P_2 (in), U1 IP (in), U6 IP (in), U8 IP_L11P_2 (in), U10 IP_L14P_2/RDWR_B/GCLK0 (in), U11 IP_L17N_2 (in), U13 IP (in), U14 IP_L23N_2 (in), V2 IP (in), V3 IP_L02N_2 (in), V4 IP_L02P_2 (in), V8 IP_L11N_2/VREF_2 (in), V14 IP_L23P_2 (in), V16 IP (in)
part F pins: A2 TDI (in), A17 TCK (in), B1 PROG_B (in), C16 TDO (out), D15 TMS (in), V17 DONE (io)
part G pins: A9 VCCO_0 (power), B7 VCCAUX (power), B12 VCCAUX (power), C6 VCCO_0 (power), C13 VCCO_0 (power), E5 VCCINT (power), E14 VCCINT (power), F3 VCCO_3 (power), F6 VCCINT (power), F13 VCCINT (power), F16 VCCO_1 (power), G2 VCCAUX (power), G8 VCCO_0 (power), G11 VCCO_0 (power), G17 VCCAUX (power), H7 VCCO_3 (power), H12 VCCO_1 (power), J18 VCCO_1 (power), K1 VCCO_3 (power), L7 VCCO_3 (power), L12 VCCO_1 (power), M2 VCCAUX (power), M8 VCCO_2 (power), M11 VCCO_2 (power), M17 VCCAUX (power), N3 VCCO_3 (power), N6 VCCINT (power), N13 VCCINT (power), N16 VCCO_1 (power), P5 VCCINT (power), P14 VCCINT (power), T6 VCCO_2 (power), T13 VCCO_2 (power), U7 VCCAUX (power), U12 VCCAUX (power), V10 VCCO_2 (power)
part H pins: A1 GND (power), A18 GND (power), B2 GND (power), B17 GND (power), C10 GND (power), G7 GND (power), G12 GND (power), H8 GND (power), H9 GND (power), H10 GND (power), H11 GND (power), J3 GND (power), J8 GND (power), J11 GND (power), K8 GND (power), K11 GND (power), K16 GND (power), L8 GND (power), L9 GND (power), L10 GND (power), L11 GND (power), M7 GND (power), M12 GND (power), T9 GND (power), U2 GND (power), U17 GND (power), V1 GND (power), V18 GND (power)
part I pins: A12 NC, D4 NC, D6 NC, E3 NC, E4 NC, E6 NC, E15 NC, E16 NC, N12 NC, N14 NC, N15 NC, P3 NC, P4 NC, P12 NC, P16 NC, V5 NC, V6 NC, V7 NC
part A text: BANK 0
part B text: BANK 1
part C text: BANK 2
part D text: BANK 3

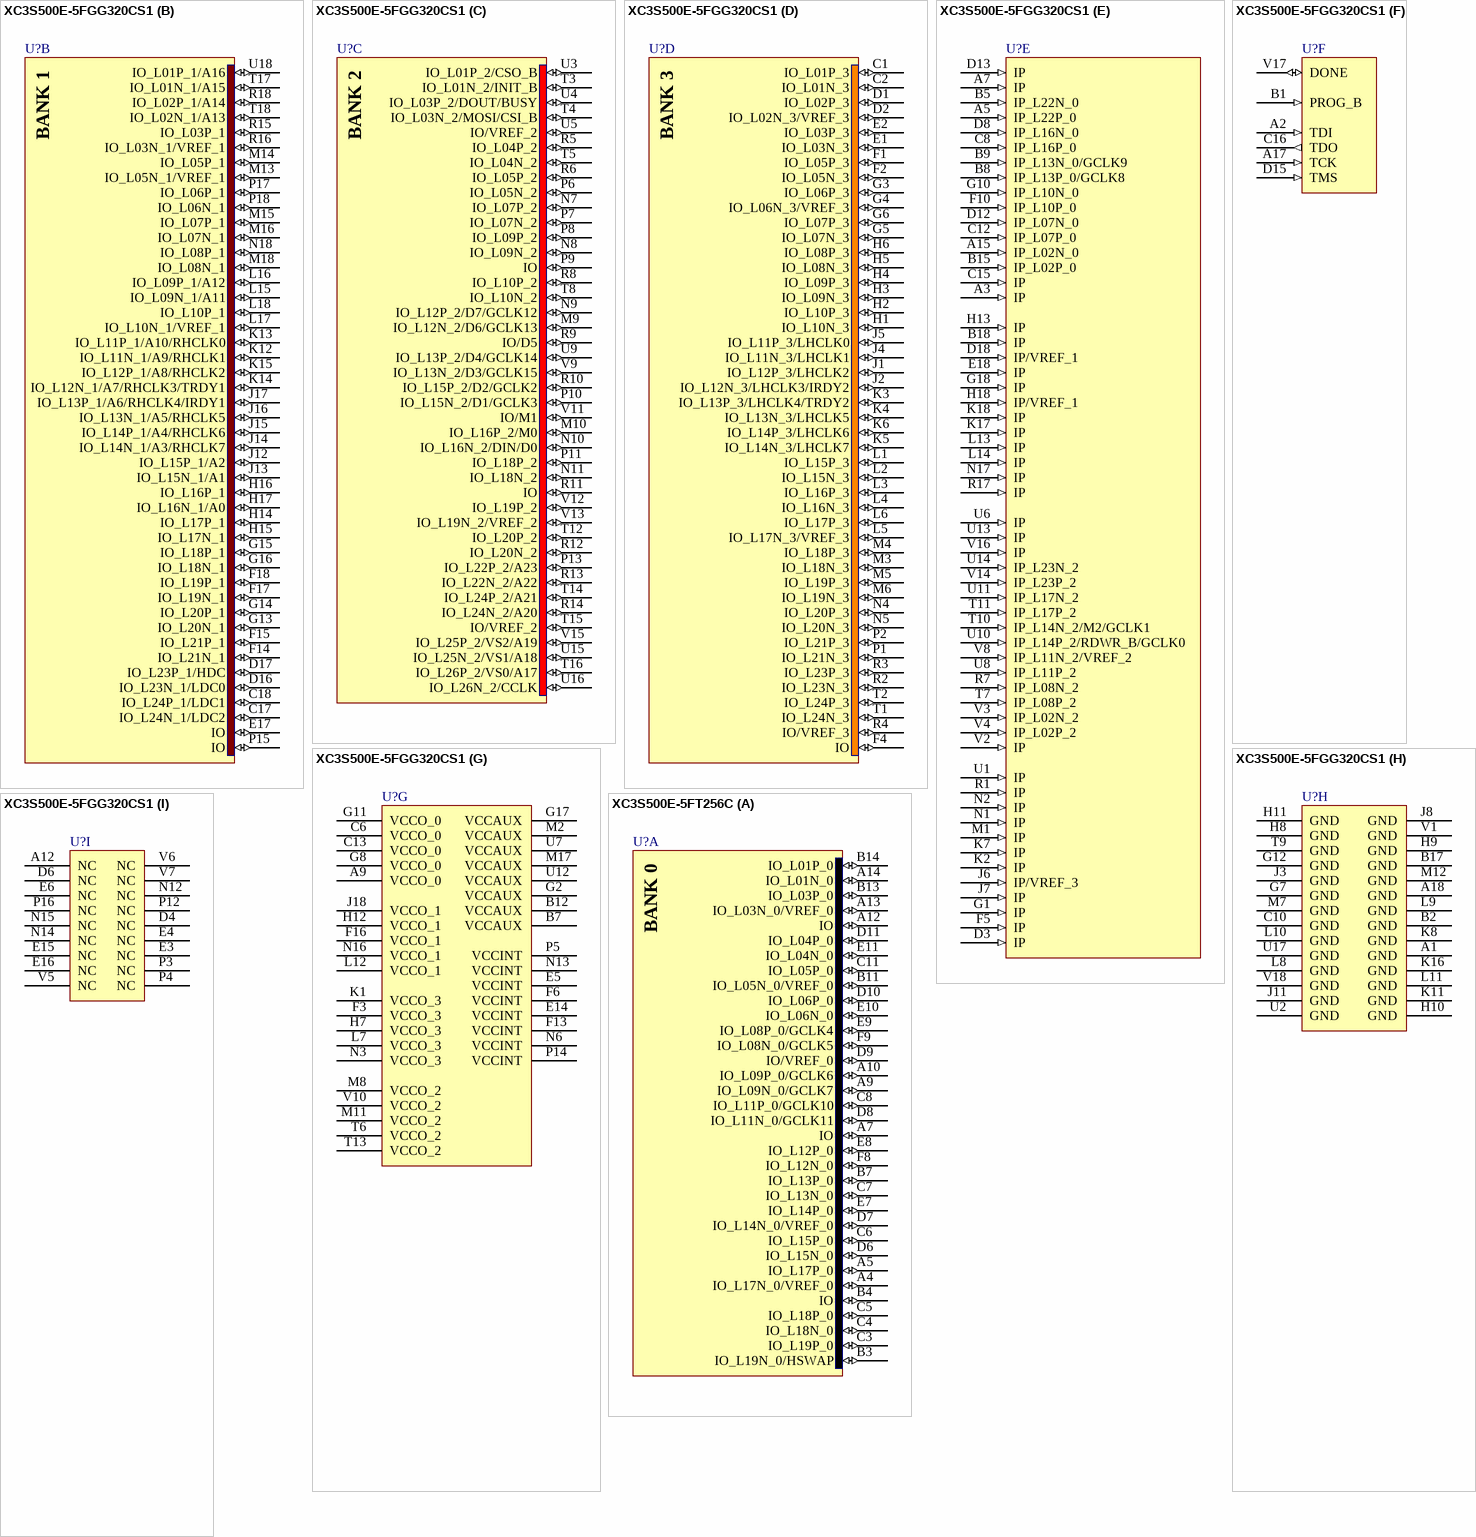
[diagram p85: symbols XC3S500E-5FGG320CS1 to XC3S500E-5FT256C]

## XC3S500E-5FGG320CS1
designator U?
Spartan-3E 1.2V FPGA, 232 User I/Os, 320-Ball FBGA, High Performance, Commercial Grade, Stepping 1, Pb-Free; DatasheetVersion: ver3.8, Aug-2009; PackageVersion: ver1.2.1, Mar-2005; PackageReference: FGG320; PackageDescription: 320-Ball Fine Pitch Ball Grid Array (FGG320) - Pb-Free; Code_JEDEC: MS-034-AAG-1; ComponentLink1Description: Manufacturer URL; ComponentLink1URL: http://www.xilinx.com/; ComponentLink2Description: Spartan-3E Datasheet; ComponentLink2URL: http://www.xilinx.com/support/documentation/data_sheets/ds312.pdf; ComponentLink3Description: FGG320 Package Drawing; ComponentLink3URL: http://www.xilinx.com/support/documentation/package_specs/fg320.pdf; ComponentLink4Description: Spartan-3E Documents; ComponentLink4URL: http://www.xilinx.com/support/documentation/spartan-3e.htm
footprint FGG320 (BGA, 320-Leads, Body 19x19mm, Pitch 1mm)
part A pins: A4 IO_L24P_0 (io), A6 IO_L20N_0 (io), A8 IO (io), A10 IO_L12N_0/GCLK7 (io), A11 IO (io), A13 IO_L05P_0 (io), A14 IO_L04N_0 (io), A16 IO_L01N_0 (io), B3 IO_L25N_0/HSWAP (io), B4 IO_L24N_0 (io), B6 IO_L20P_0 (io), B10 IO_L12P_0/GCLK6 (io), B11 IO/VREF_0 (io), B13 IO_L05N_0/VREF_0 (io), B14 IO_L04P_0 (io), B16 IO_L01P_0 (io), C3 IO_L25P_0 (io), C4 IO (io), C5 IO_L23P_0 (io), C7 IO_L18P_0 (io), C9 IO_L14P_0/GCLK10 (io), C11 IO_L09P_0 (io), C14 IO_L03N_0/VREF_0 (io), D5 IO_L23N_0/VREF_0 (io), D7 IO_L18N_0/VREF_0 (io), D9 IO_L14N_0/GCLK11 (io), D10 IO_L11P_0/GCLK4 (io), D11 IO_L09N_0 (io), D14 IO_L03P_0 (io), E7 IO_L19N_0/VREF_0 (io), E8 IO_L17P_0 (io), E9 IO_L15P_0 (io), E10 IO_L11N_0/GCLK5 (io), E11 IO_L08P_0 (io), E12 IO_L06N_0 (io), E13 IO (io), F7 IO_L19P_0 (io), F8 IO_L17N_0 (io), F9 IO_L15N_0 (io), F11 IO_L08N_0 (io), F12 IO_L06P_0 (io), G9 IO (io)
part B pins: C17 IO_L24N_1/LDC2 (io), C18 IO_L24P_1/LDC1 (io), D16 IO_L23N_1/LDC0 (io), D17 IO_L23P_1/HDC (io), E17 IO (io), F14 IO_L21N_1 (io), F15 IO_L21P_1 (io), F17 IO_L19N_1 (io), F18 IO_L19P_1 (io), G13 IO_L20N_1 (io), G14 IO_L20P_1 (io), G15 IO_L18P_1 (io), G16 IO_L18N_1 (io), H14 IO_L17P_1 (io), H15 IO_L17N_1 (io), H16 IO_L16P_1 (io), H17 IO_L16N_1/A0 (io), J12 IO_L15P_1/A2 (io), J13 IO_L15N_1/A1 (io), J14 IO_L14N_1/A3/RHCLK7 (io), J15 IO_L14P_1/A4/RHCLK6 (io), J16 IO_L13N_1/A5/RHCLK5 (io), J17 IO_L13P_1/A6/RHCLK4/IRDY1 (io), K12 IO_L11N_1/A9/RHCLK1 (io), K13 IO_L11P_1/A10/RHCLK0 (io), K14 IO_L12N_1/A7/RHCLK3/TRDY1 (io), K15 IO_L12P_1/A8/RHCLK2 (io), L15 IO_L09N_1/A11 (io), L16 IO_L09P_1/A12 (io), L17 IO_L10N_1/VREF_1 (io), L18 IO_L10P_1 (io), M13 IO_L05N_1/VREF_1 (io), M14 IO_L05P_1 (io), M15 IO_L07P_1 (io), M16 IO_L07N_1 (io), M18 IO_L08N_1 (io), N18 IO_L08P_1 (io), P15 IO (io), P17 IO_L06P_1 (io), P18 IO_L06N_1 (io), R15 IO_L03P_1 (io), R16 IO_L03N_1/VREF_1 (io), R18 IO_L02P_1/A14 (io), T17 IO_L01N_1/A15 (io), T18 IO_L02N_1/A13 (io), U18 IO_L01P_1/A16 (io)
part C pins: M9 IO_L12N_2/D6/GCLK13 (io), M10 IO_L16P_2/M0 (io), N7 IO_L07P_2 (io), N8 IO_L09N_2 (io), N9 IO_L12P_2/D7/GCLK12 (io), N10 IO_L16N_2/DIN/D0 (io), N11 IO_L18N_2 (io), P6 IO_L05N_2 (io), P7 IO_L07N_2 (io), P8 IO_L09P_2 (io), P9 IO (io), P10 IO_L15N_2/D1/GCLK3 (io), P11 IO_L18P_2 (io), P13 IO_L22P_2/A23 (io), R5 IO_L04P_2 (io), R6 IO_L05P_2 (io), R8 IO_L10P_2 (io), R9 IO/D5 (io), R10 IO_L15P_2/D2/GCLK2 (io), R11 IO (io), R12 IO_L20N_2 (io), R13 IO_L22N_2/A22 (io), R14 IO_L24N_2/A20 (io), T3 IO_L01N_2/INIT_B (io), T4 IO_L03N_2/MOSI/CSI_B (io), T5 IO_L04N_2 (io), T8 IO_L10N_2 (io), T12 IO_L20P_2 (io), T14 IO_L24P_2/A21 (io), T15 IO/VREF_2 (io), T16 IO_L26P_2/VS0/A17 (io), U3 IO_L01P_2/CSO_B (io), U4 IO_L03P_2/DOUT/BUSY (io), U5 IO/VREF_2 (io), U9 IO_L13P_2/D4/GCLK14 (io), U15 IO_L25N_2/VS1/A18 (io), U16 IO_L26N_2/CCLK (io), V9 IO_L13N_2/D3/GCLK15 (io), V11 IO/M1 (io), V12 IO_L19P_2 (io), V13 IO_L19N_2/VREF_2 (io), V15 IO_L25P_2/VS2/A19 (io)
part D pins: C1 IO_L01P_3 (io), C2 IO_L01N_3 (io), D1 IO_L02P_3 (io), D2 IO_L02N_3/VREF_3 (io), E1 IO_L03N_3 (io), E2 IO_L03P_3 (io), F1 IO_L05P_3 (io), F2 IO_L05N_3 (io), F4 IO (io), G3 IO_L06P_3 (io), G4 IO_L06N_3/VREF_3 (io), G5 IO_L07N_3 (io), G6 IO_L07P_3 (io), H1 IO_L10N_3 (io), H2 IO_L10P_3 (io), H3 IO_L09N_3 (io), H4 IO_L09P_3 (io), H5 IO_L08N_3 (io), H6 IO_L08P_3 (io), J1 IO_L12P_3/LHCLK2 (io), J2 IO_L12N_3/LHCLK3/IRDY2 (io), J4 IO_L11N_3/LHCLK1 (io), J5 IO_L11P_3/LHCLK0 (io), K3 IO_L13P_3/LHCLK4/TRDY2 (io), K4 IO_L13N_3/LHCLK5 (io), K5 IO_L14N_3/LHCLK7 (io), K6 IO_L14P_3/LHCLK6 (io), L1 IO_L15P_3 (io), L2 IO_L15N_3 (io), L3 IO_L16P_3 (io), L4 IO_L16N_3 (io), L5 IO_L17N_3/VREF_3 (io), L6 IO_L17P_3 (io), M3 IO_L18N_3 (io), M4 IO_L18P_3 (io), M5 IO_L19P_3 (io), M6 IO_L19N_3 (io), N4 IO_L20P_3 (io), N5 IO_L20N_3 (io), P1 IO_L21N_3 (io), P2 IO_L21P_3 (io), R2 IO_L23N_3 (io), R3 IO_L23P_3 (io), R4 IO/VREF_3 (io), T1 IO_L24N_3 (io), T2 IO_L24P_3 (io)
part E pins: A3 IP (in), A5 IP_L22P_0 (in), A7 IP (in), A15 IP_L02N_0 (in), B5 IP_L22N_0 (in), B8 IP_L13P_0/GCLK8 (in), B9 IP_L13N_0/GCLK9 (in), B15 IP_L02P_0 (in), B18 IP (in), C8 IP_L16P_0 (in), C12 IP_L07P_0 (in), C15 IP (in), D3 IP (in), D8 IP_L16N_0 (in), D12 IP_L07N_0 (in), D13 IP (in), D18 IP/VREF_1 (in), E18 IP (in), F5 IP (in), F10 IP_L10P_0 (in), G1 IP (in), G10 IP_L10N_0 (in), G18 IP (in), H13 IP (in), H18 IP/VREF_1 (in), J6 IP/VREF_3 (in), J7 IP (in), K2 IP (in), K7 IP (in), K17 IP (in), K18 IP (in), L13 IP (in), L14 IP (in), M1 IP (in), N1 IP (in), N2 IP (in), N17 IP (in), R1 IP (in), R7 IP_L08N_2 (in), R17 IP (in), T7 IP_L08P_2 (in), T10 IP_L14N_2/M2/GCLK1 (in), T11 IP_L17P_2 (in), U1 IP (in), U6 IP (in), U8 IP_L11P_2 (in), U10 IP_L14P_2/RDWR_B/GCLK0 (in), U11 IP_L17N_2 (in), U13 IP (in), U14 IP_L23N_2 (in), V2 IP (in), V3 IP_L02N_2 (in), V4 IP_L02P_2 (in), V8 IP_L11N_2/VREF_2 (in), V14 IP_L23P_2 (in), V16 IP (in)
part F pins: A2 TDI (in), A17 TCK (in), B1 PROG_B (in), C16 TDO (out), D15 TMS (in), V17 DONE (io)
part G pins: A9 VCCO_0 (power), B7 VCCAUX (power), B12 VCCAUX (power), C6 VCCO_0 (power), C13 VCCO_0 (power), E5 VCCINT (power), E14 VCCINT (power), F3 VCCO_3 (power), F6 VCCINT (power), F13 VCCINT (power), F16 VCCO_1 (power), G2 VCCAUX (power), G8 VCCO_0 (power), G11 VCCO_0 (power), G17 VCCAUX (power), H7 VCCO_3 (power), H12 VCCO_1 (power), J18 VCCO_1 (power), K1 VCCO_3 (power), L7 VCCO_3 (power), L12 VCCO_1 (power), M2 VCCAUX (power), M8 VCCO_2 (power), M11 VCCO_2 (power), M17 VCCAUX (power), N3 VCCO_3 (power), N6 VCCINT (power), N13 VCCINT (power), N16 VCCO_1 (power), P5 VCCINT (power), P14 VCCINT (power), T6 VCCO_2 (power), T13 VCCO_2 (power), U7 VCCAUX (power), U12 VCCAUX (power), V10 VCCO_2 (power)
part H pins: A1 GND (power), A18 GND (power), B2 GND (power), B17 GND (power), C10 GND (power), G7 GND (power), G12 GND (power), H8 GND (power), H9 GND (power), H10 GND (power), H11 GND (power), J3 GND (power), J8 GND (power), J11 GND (power), K8 GND (power), K11 GND (power), K16 GND (power), L8 GND (power), L9 GND (power), L10 GND (power), L11 GND (power), M7 GND (power), M12 GND (power), T9 GND (power), U2 GND (power), U17 GND (power), V1 GND (power), V18 GND (power)
part I pins: A12 NC, D4 NC, D6 NC, E3 NC, E4 NC, E6 NC, E15 NC, E16 NC, N12 NC, N14 NC, N15 NC, P3 NC, P4 NC, P12 NC, P16 NC, V5 NC, V6 NC, V7 NC
part A text: BANK 0
part B text: BANK 1
part C text: BANK 2
part D text: BANK 3

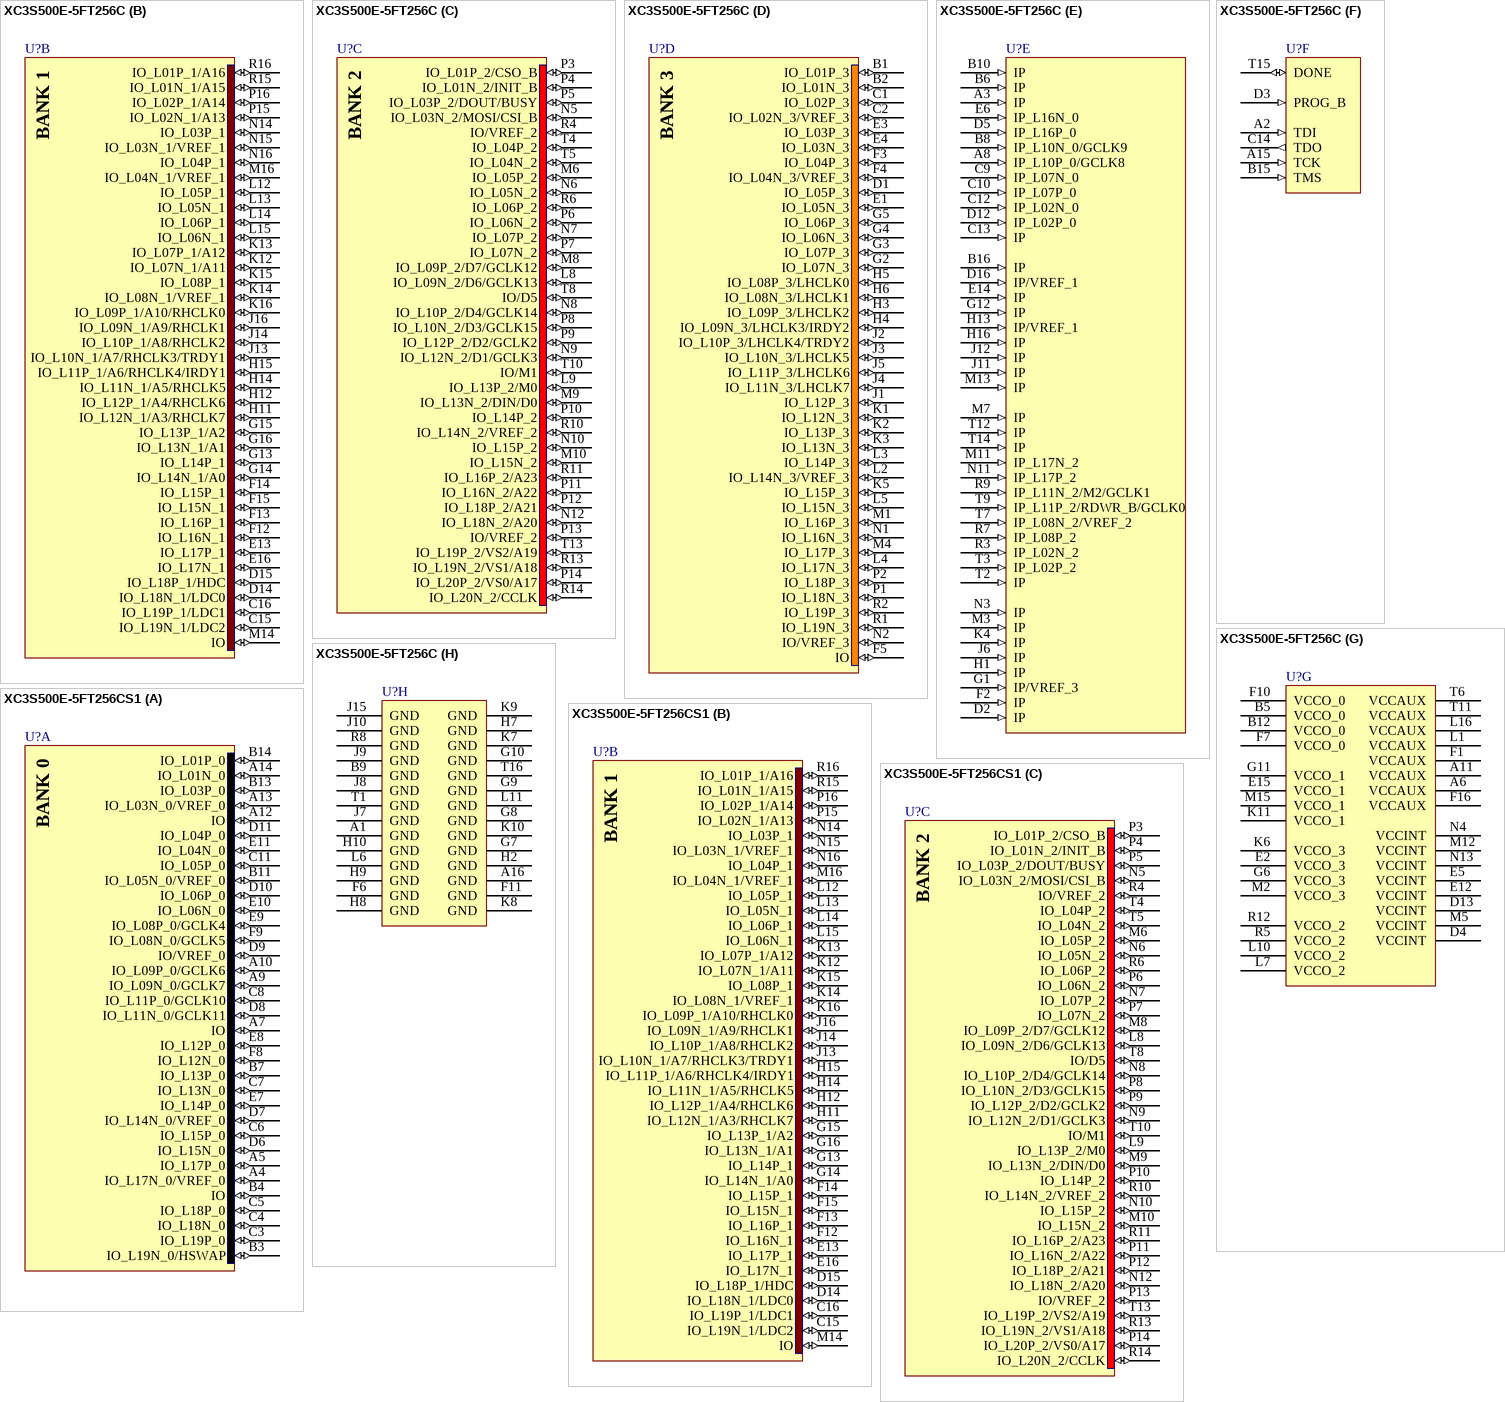
[diagram p86: symbols XC3S500E-5FT256C to XC3S500E-5FT256CS1]

## XC3S500E-5FT256C
designator U?
Spartan-3E 1.2V FPGA, 190 User I/Os, 256-Ball FTBGA, High Performance, Commercial Grade; DatasheetVersion: ver3.8, Aug-2009; PackageVersion: ver1.3, Oct-2007; PackageReference: FT256; PackageDescription: 256-Ball Fine Pitch Thin Ball Grid Array 1.00 mm Pitch (FT256); Code_JEDEC: MS-034-AAF-1*; ComponentLink1Description: Manufacturer URL; ComponentLink1URL: http://www.xilinx.com/; ComponentLink2Description: Spartan-3E Datasheet; ComponentLink2URL: http://www.xilinx.com/support/documentation/data_sheets/ds312.pdf; ComponentLink3Description: FT256 Package Drawing; ComponentLink3URL: http://www.xilinx.com/support/documentation/package_specs/ft256.pdf; ComponentLink4Description: Spartan-3E Documents; ComponentLink4URL: http://www.xilinx.com/support/documentation/spartan-3e.htm
footprint FT256 (BGA, 256-Leads, Body 17x17mm, Pitch 1mm)
part A pins: A4 IO_L17N_0/VREF_0 (io), A5 IO_L17P_0 (io), A7 IO (io), A9 IO_L09N_0/GCLK7 (io), A10 IO_L09P_0/GCLK6 (io), A12 IO (io), A13 IO_L03N_0/VREF_0 (io), A14 IO_L01N_0 (io), B3 IO_L19N_0/HSWAP (io), B4 IO (io), B7 IO_L13P_0 (io), B11 IO_L05N_0/VREF_0 (io), B13 IO_L03P_0 (io), B14 IO_L01P_0 (io), C3 IO_L19P_0 (io), C4 IO_L18N_0 (io), C5 IO_L18P_0 (io), C6 IO_L15P_0 (io), C7 IO_L13N_0 (io), C8 IO_L11P_0/GCLK10 (io), C11 IO_L05P_0 (io), D6 IO_L15N_0 (io), D7 IO_L14N_0/VREF_0 (io), D8 IO_L11N_0/GCLK11 (io), D9 IO/VREF_0 (io), D10 IO_L06P_0 (io), D11 IO_L04P_0 (io), E7 IO_L14P_0 (io), E8 IO_L12P_0 (io), E9 IO_L08P_0/GCLK4 (io), E10 IO_L06N_0 (io), E11 IO_L04N_0 (io), F8 IO_L12N_0 (io), F9 IO_L08N_0/GCLK5 (io)
part B pins: C15 IO_L19N_1/LDC2 (io), C16 IO_L19P_1/LDC1 (io), D14 IO_L18N_1/LDC0 (io), D15 IO_L18P_1/HDC (io), E13 IO_L17P_1 (io), E16 IO_L17N_1 (io), F12 IO_L16N_1 (io), F13 IO_L16P_1 (io), F14 IO_L15P_1 (io), F15 IO_L15N_1 (io), G13 IO_L14P_1 (io), G14 IO_L14N_1/A0 (io), G15 IO_L13P_1/A2 (io), G16 IO_L13N_1/A1 (io), H11 IO_L12N_1/A3/RHCLK7 (io), H12 IO_L12P_1/A4/RHCLK6 (io), H14 IO_L11N_1/A5/RHCLK5 (io), H15 IO_L11P_1/A6/RHCLK4/IRDY1 (io), J13 IO_L10N_1/A7/RHCLK3/TRDY1 (io), J14 IO_L10P_1/A8/RHCLK2 (io), J16 IO_L09N_1/A9/RHCLK1 (io), K12 IO_L07N_1/A11 (io), K13 IO_L07P_1/A12 (io), K14 IO_L08N_1/VREF_1 (io), K15 IO_L08P_1 (io), K16 IO_L09P_1/A10/RHCLK0 (io), L12 IO_L05P_1 (io), L13 IO_L05N_1 (io), L14 IO_L06P_1 (io), L15 IO_L06N_1 (io), M14 IO (io), M16 IO_L04N_1/VREF_1 (io), N14 IO_L03P_1 (io), N15 IO_L03N_1/VREF_1 (io), N16 IO_L04P_1 (io), P15 IO_L02N_1/A13 (io), P16 IO_L02P_1/A14 (io), R15 IO_L01N_1/A15 (io), R16 IO_L01P_1/A16 (io)
part C pins: L8 IO_L09N_2/D6/GCLK13 (io), L9 IO_L13P_2/M0 (io), M6 IO_L05P_2 (io), M8 IO_L09P_2/D7/GCLK12 (io), M9 IO_L13N_2/DIN/D0 (io), M10 IO_L15N_2 (io), N5 IO_L03N_2/MOSI/CSI_B (io), N6 IO_L05N_2 (io), N7 IO_L07P_2 (io), N8 IO_L10P_2/D4/GCLK14 (io), N9 IO_L12N_2/D1/GCLK3 (io), N10 IO_L15P_2 (io), N12 IO_L18N_2/A20 (io), P3 IO_L01P_2/CSO_B (io), P4 IO_L01N_2/INIT_B (io), P5 IO_L03P_2/DOUT/BUSY (io), P6 IO_L06N_2 (io), P7 IO_L07N_2 (io), P8 IO_L10N_2/D3/GCLK15 (io), P9 IO_L12P_2/D2/GCLK2 (io), P10 IO_L14P_2 (io), P11 IO_L16N_2/A22 (io), P12 IO_L18P_2/A21 (io), P13 IO/VREF_2 (io), P14 IO_L20P_2/VS0/A17 (io), R4 IO/VREF_2 (io), R6 IO_L06P_2 (io), R10 IO_L14N_2/VREF_2 (io), R11 IO_L16P_2/A23 (io), R13 IO_L19N_2/VS1/A18 (io), R14 IO_L20N_2/CCLK (io), T4 IO_L04P_2 (io), T5 IO_L04N_2 (io), T8 IO/D5 (io), T10 IO/M1 (io), T13 IO_L19P_2/VS2/A19 (io)
part D pins: B1 IO_L01P_3 (io), B2 IO_L01N_3 (io), C1 IO_L02P_3 (io), C2 IO_L02N_3/VREF_3 (io), D1 IO_L05P_3 (io), E1 IO_L05N_3 (io), E3 IO_L03P_3 (io), E4 IO_L03N_3 (io), F3 IO_L04P_3 (io), F4 IO_L04N_3/VREF_3 (io), F5 IO (io), G2 IO_L07N_3 (io), G3 IO_L07P_3 (io), G4 IO_L06N_3 (io), G5 IO_L06P_3 (io), H3 IO_L09P_3/LHCLK2 (io), H4 IO_L09N_3/LHCLK3/IRDY2 (io), H5 IO_L08P_3/LHCLK0 (io), H6 IO_L08N_3/LHCLK1 (io), J1 IO_L12P_3 (io), J2 IO_L10P_3/LHCLK4/TRDY2 (io), J3 IO_L10N_3/LHCLK5 (io), J4 IO_L11N_3/LHCLK7 (io), J5 IO_L11P_3/LHCLK6 (io), K1 IO_L12N_3 (io), K2 IO_L13P_3 (io), K3 IO_L13N_3 (io), K5 IO_L15P_3 (io), L2 IO_L14N_3/VREF_3 (io), L3 IO_L14P_3 (io), L4 IO_L17N_3 (io), L5 IO_L15N_3 (io), M1 IO_L16P_3 (io), M4 IO_L17P_3 (io), N1 IO_L16N_3 (io), N2 IO/VREF_3 (io), P1 IO_L18N_3 (io), P2 IO_L18P_3 (io), R1 IO_L19N_3 (io), R2 IO_L19P_3 (io)
part E pins: A3 IP (in), A8 IP_L10P_0/GCLK8 (in), B6 IP (in), B8 IP_L10N_0/GCLK9 (in), B10 IP (in), B16 IP (in), C9 IP_L07N_0 (in), C10 IP_L07P_0 (in), C12 IP_L02N_0 (in), C13 IP (in), D2 IP (in), D5 IP_L16P_0 (in), D12 IP_L02P_0 (in), D16 IP/VREF_1 (in), E6 IP_L16N_0 (in), E14 IP (in), F2 IP (in), G1 IP/VREF_3 (in), G12 IP (in), H1 IP (in), H13 IP/VREF_1 (in), H16 IP (in), J6 IP (in), J11 IP (in), J12 IP (in), K4 IP (in), M3 IP (in), M7 IP (in), M11 IP_L17N_2 (in), M13 IP (in), N3 IP (in), N11 IP_L17P_2 (in), R3 IP_L02N_2 (in), R7 IP_L08P_2 (in), R9 IP_L11N_2/M2/GCLK1 (in), T2 IP (in), T3 IP_L02P_2 (in), T7 IP_L08N_2/VREF_2 (in), T9 IP_L11P_2/RDWR_B/GCLK0 (in), T12 IP (in), T14 IP (in)
part F pins: A2 TDI (in), A15 TCK (in), B15 TMS (in), C14 TDO (out), D3 PROG_B (in), T15 DONE (io)
part G pins: A6 VCCAUX (power), A11 VCCAUX (power), B5 VCCO_0 (power), B12 VCCO_0 (power), D4 VCCINT (power), D13 VCCINT (power), E2 VCCO_3 (power), E5 VCCINT (power), E12 VCCINT (power), E15 VCCO_1 (power), F1 VCCAUX (power), F7 VCCO_0 (power), F10 VCCO_0 (power), F16 VCCAUX (power), G6 VCCO_3 (power), G11 VCCO_1 (power), K6 VCCO_3 (power), K11 VCCO_1 (power), L1 VCCAUX (power), L7 VCCO_2 (power), L10 VCCO_2 (power), L16 VCCAUX (power), M2 VCCO_3 (power), M5 VCCINT (power), M12 VCCINT (power), M15 VCCO_1 (power), N4 VCCINT (power), N13 VCCINT (power), R5 VCCO_2 (power), R12 VCCO_2 (power), T6 VCCAUX (power), T11 VCCAUX (power)
part H pins: A1 GND (power), A16 GND (power), B9 GND (power), F6 GND (power), F11 GND (power), G7 GND (power), G8 GND (power), G9 GND (power), G10 GND (power), H2 GND (power), H7 GND (power), H8 GND (power), H9 GND (power), H10 GND (power), J7 GND (power), J8 GND (power), J9 GND (power), J10 GND (power), J15 GND (power), K7 GND (power), K8 GND (power), K9 GND (power), K10 GND (power), L6 GND (power), L11 GND (power), R8 GND (power), T1 GND (power), T16 GND (power)
part A text: BANK 0
part B text: BANK 1
part C text: BANK 2
part D text: BANK 3

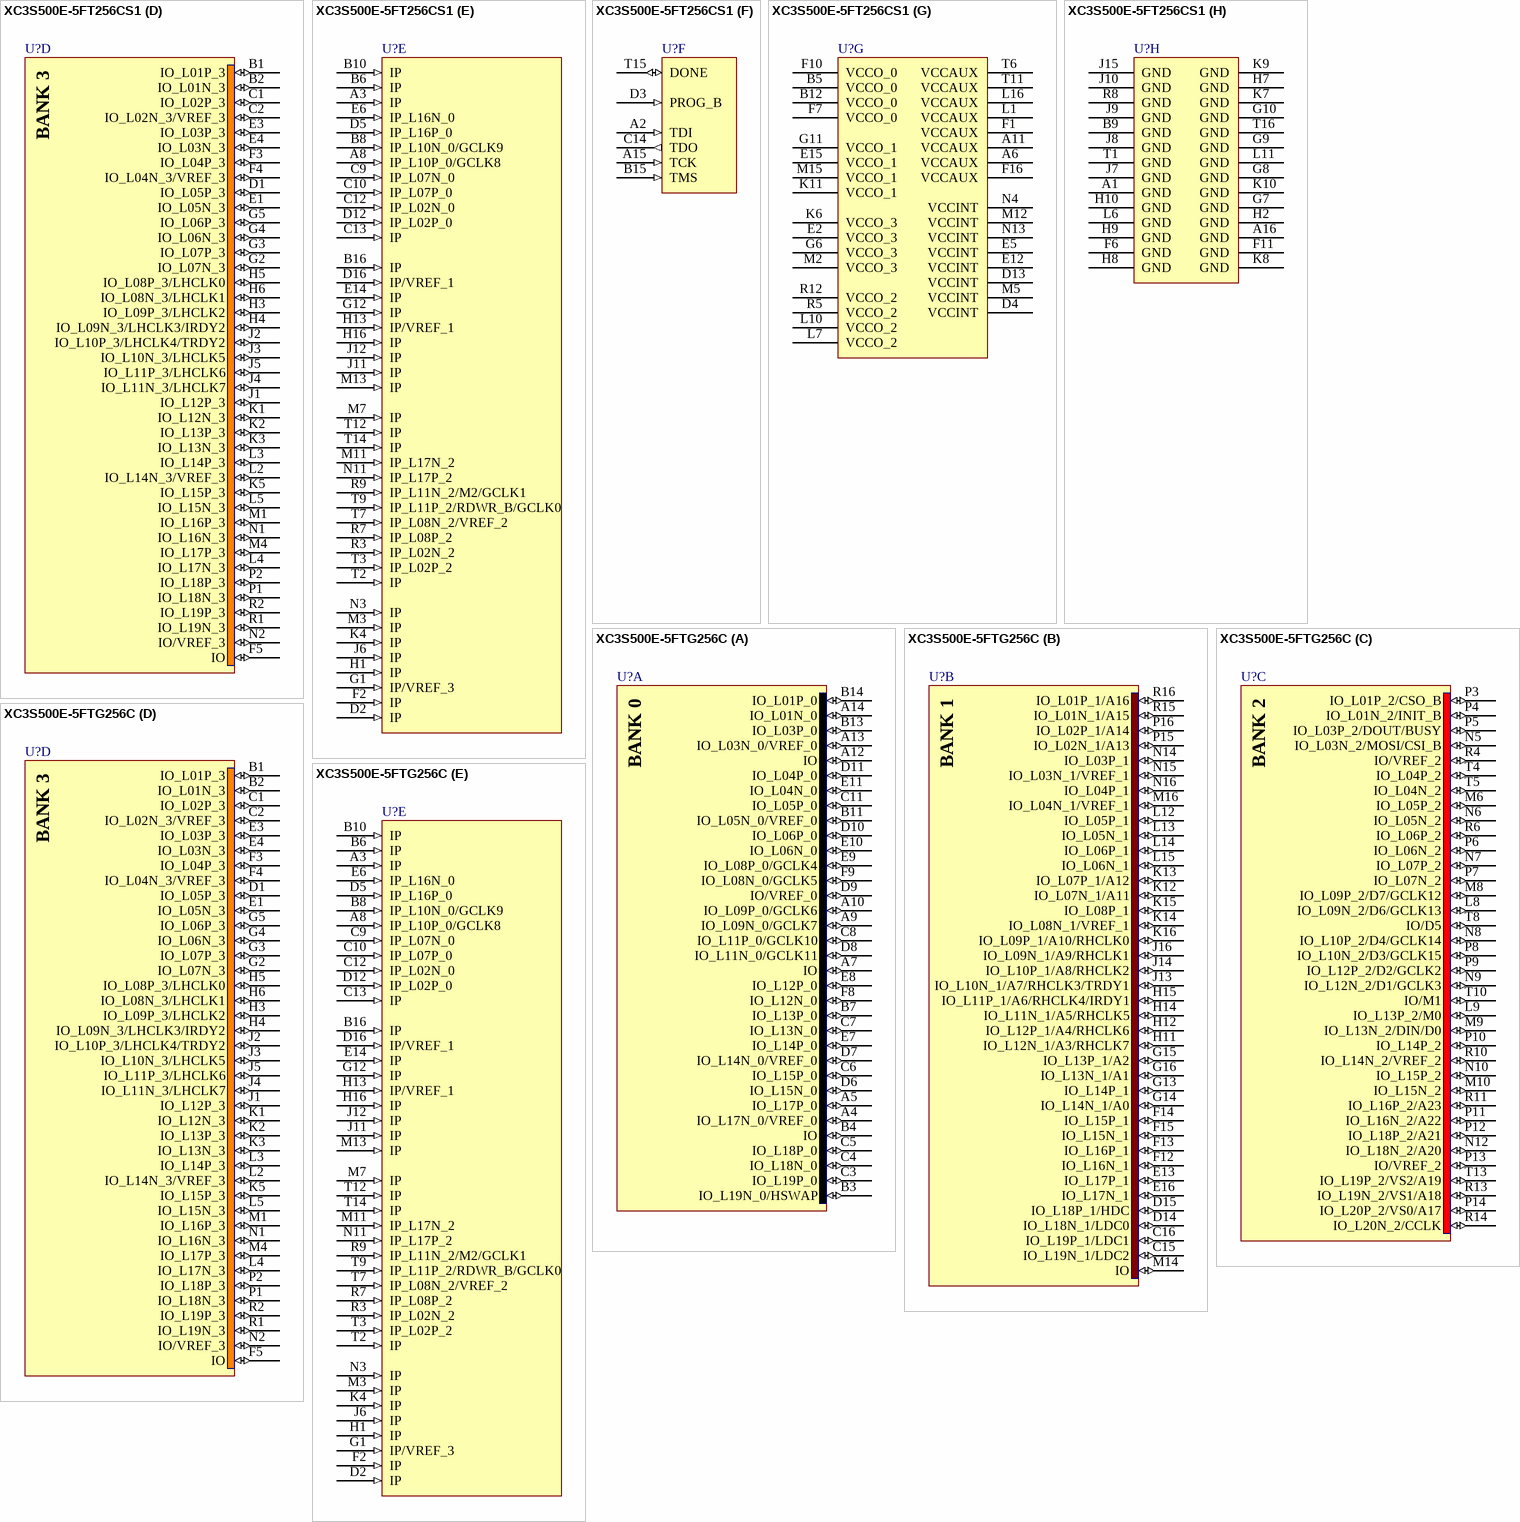
[diagram p87: symbols XC3S500E-5FT256CS1 to XC3S500E-5FTG256C]

## XC3S500E-5FT256CS1
designator U?
Spartan-3E 1.2V FPGA, 190 User I/Os, 256-Ball FTBGA, High Performance, Commercial Grade, Stepping 1; DatasheetVersion: ver3.8, Aug-2009; PackageVersion: ver1.3, Oct-2007; PackageReference: FT256; PackageDescription: 256-Ball Fine Pitch Thin Ball Grid Array 1.00 mm Pitch (FT256); Code_JEDEC: MS-034-AAF-1*; ComponentLink1Description: Manufacturer URL; ComponentLink1URL: http://www.xilinx.com/; ComponentLink2Description: Spartan-3E Datasheet; ComponentLink2URL: http://www.xilinx.com/support/documentation/data_sheets/ds312.pdf; ComponentLink3Description: FT256 Package Drawing; ComponentLink3URL: http://www.xilinx.com/support/documentation/package_specs/ft256.pdf; ComponentLink4Description: Spartan-3E Documents; ComponentLink4URL: http://www.xilinx.com/support/documentation/spartan-3e.htm
footprint FT256 (BGA, 256-Leads, Body 17x17mm, Pitch 1mm)
part A pins: A4 IO_L17N_0/VREF_0 (io), A5 IO_L17P_0 (io), A7 IO (io), A9 IO_L09N_0/GCLK7 (io), A10 IO_L09P_0/GCLK6 (io), A12 IO (io), A13 IO_L03N_0/VREF_0 (io), A14 IO_L01N_0 (io), B3 IO_L19N_0/HSWAP (io), B4 IO (io), B7 IO_L13P_0 (io), B11 IO_L05N_0/VREF_0 (io), B13 IO_L03P_0 (io), B14 IO_L01P_0 (io), C3 IO_L19P_0 (io), C4 IO_L18N_0 (io), C5 IO_L18P_0 (io), C6 IO_L15P_0 (io), C7 IO_L13N_0 (io), C8 IO_L11P_0/GCLK10 (io), C11 IO_L05P_0 (io), D6 IO_L15N_0 (io), D7 IO_L14N_0/VREF_0 (io), D8 IO_L11N_0/GCLK11 (io), D9 IO/VREF_0 (io), D10 IO_L06P_0 (io), D11 IO_L04P_0 (io), E7 IO_L14P_0 (io), E8 IO_L12P_0 (io), E9 IO_L08P_0/GCLK4 (io), E10 IO_L06N_0 (io), E11 IO_L04N_0 (io), F8 IO_L12N_0 (io), F9 IO_L08N_0/GCLK5 (io)
part B pins: C15 IO_L19N_1/LDC2 (io), C16 IO_L19P_1/LDC1 (io), D14 IO_L18N_1/LDC0 (io), D15 IO_L18P_1/HDC (io), E13 IO_L17P_1 (io), E16 IO_L17N_1 (io), F12 IO_L16N_1 (io), F13 IO_L16P_1 (io), F14 IO_L15P_1 (io), F15 IO_L15N_1 (io), G13 IO_L14P_1 (io), G14 IO_L14N_1/A0 (io), G15 IO_L13P_1/A2 (io), G16 IO_L13N_1/A1 (io), H11 IO_L12N_1/A3/RHCLK7 (io), H12 IO_L12P_1/A4/RHCLK6 (io), H14 IO_L11N_1/A5/RHCLK5 (io), H15 IO_L11P_1/A6/RHCLK4/IRDY1 (io), J13 IO_L10N_1/A7/RHCLK3/TRDY1 (io), J14 IO_L10P_1/A8/RHCLK2 (io), J16 IO_L09N_1/A9/RHCLK1 (io), K12 IO_L07N_1/A11 (io), K13 IO_L07P_1/A12 (io), K14 IO_L08N_1/VREF_1 (io), K15 IO_L08P_1 (io), K16 IO_L09P_1/A10/RHCLK0 (io), L12 IO_L05P_1 (io), L13 IO_L05N_1 (io), L14 IO_L06P_1 (io), L15 IO_L06N_1 (io), M14 IO (io), M16 IO_L04N_1/VREF_1 (io), N14 IO_L03P_1 (io), N15 IO_L03N_1/VREF_1 (io), N16 IO_L04P_1 (io), P15 IO_L02N_1/A13 (io), P16 IO_L02P_1/A14 (io), R15 IO_L01N_1/A15 (io), R16 IO_L01P_1/A16 (io)
part C pins: L8 IO_L09N_2/D6/GCLK13 (io), L9 IO_L13P_2/M0 (io), M6 IO_L05P_2 (io), M8 IO_L09P_2/D7/GCLK12 (io), M9 IO_L13N_2/DIN/D0 (io), M10 IO_L15N_2 (io), N5 IO_L03N_2/MOSI/CSI_B (io), N6 IO_L05N_2 (io), N7 IO_L07P_2 (io), N8 IO_L10P_2/D4/GCLK14 (io), N9 IO_L12N_2/D1/GCLK3 (io), N10 IO_L15P_2 (io), N12 IO_L18N_2/A20 (io), P3 IO_L01P_2/CSO_B (io), P4 IO_L01N_2/INIT_B (io), P5 IO_L03P_2/DOUT/BUSY (io), P6 IO_L06N_2 (io), P7 IO_L07N_2 (io), P8 IO_L10N_2/D3/GCLK15 (io), P9 IO_L12P_2/D2/GCLK2 (io), P10 IO_L14P_2 (io), P11 IO_L16N_2/A22 (io), P12 IO_L18P_2/A21 (io), P13 IO/VREF_2 (io), P14 IO_L20P_2/VS0/A17 (io), R4 IO/VREF_2 (io), R6 IO_L06P_2 (io), R10 IO_L14N_2/VREF_2 (io), R11 IO_L16P_2/A23 (io), R13 IO_L19N_2/VS1/A18 (io), R14 IO_L20N_2/CCLK (io), T4 IO_L04P_2 (io), T5 IO_L04N_2 (io), T8 IO/D5 (io), T10 IO/M1 (io), T13 IO_L19P_2/VS2/A19 (io)
part D pins: B1 IO_L01P_3 (io), B2 IO_L01N_3 (io), C1 IO_L02P_3 (io), C2 IO_L02N_3/VREF_3 (io), D1 IO_L05P_3 (io), E1 IO_L05N_3 (io), E3 IO_L03P_3 (io), E4 IO_L03N_3 (io), F3 IO_L04P_3 (io), F4 IO_L04N_3/VREF_3 (io), F5 IO (io), G2 IO_L07N_3 (io), G3 IO_L07P_3 (io), G4 IO_L06N_3 (io), G5 IO_L06P_3 (io), H3 IO_L09P_3/LHCLK2 (io), H4 IO_L09N_3/LHCLK3/IRDY2 (io), H5 IO_L08P_3/LHCLK0 (io), H6 IO_L08N_3/LHCLK1 (io), J1 IO_L12P_3 (io), J2 IO_L10P_3/LHCLK4/TRDY2 (io), J3 IO_L10N_3/LHCLK5 (io), J4 IO_L11N_3/LHCLK7 (io), J5 IO_L11P_3/LHCLK6 (io), K1 IO_L12N_3 (io), K2 IO_L13P_3 (io), K3 IO_L13N_3 (io), K5 IO_L15P_3 (io), L2 IO_L14N_3/VREF_3 (io), L3 IO_L14P_3 (io), L4 IO_L17N_3 (io), L5 IO_L15N_3 (io), M1 IO_L16P_3 (io), M4 IO_L17P_3 (io), N1 IO_L16N_3 (io), N2 IO/VREF_3 (io), P1 IO_L18N_3 (io), P2 IO_L18P_3 (io), R1 IO_L19N_3 (io), R2 IO_L19P_3 (io)
part E pins: A3 IP (in), A8 IP_L10P_0/GCLK8 (in), B6 IP (in), B8 IP_L10N_0/GCLK9 (in), B10 IP (in), B16 IP (in), C9 IP_L07N_0 (in), C10 IP_L07P_0 (in), C12 IP_L02N_0 (in), C13 IP (in), D2 IP (in), D5 IP_L16P_0 (in), D12 IP_L02P_0 (in), D16 IP/VREF_1 (in), E6 IP_L16N_0 (in), E14 IP (in), F2 IP (in), G1 IP/VREF_3 (in), G12 IP (in), H1 IP (in), H13 IP/VREF_1 (in), H16 IP (in), J6 IP (in), J11 IP (in), J12 IP (in), K4 IP (in), M3 IP (in), M7 IP (in), M11 IP_L17N_2 (in), M13 IP (in), N3 IP (in), N11 IP_L17P_2 (in), R3 IP_L02N_2 (in), R7 IP_L08P_2 (in), R9 IP_L11N_2/M2/GCLK1 (in), T2 IP (in), T3 IP_L02P_2 (in), T7 IP_L08N_2/VREF_2 (in), T9 IP_L11P_2/RDWR_B/GCLK0 (in), T12 IP (in), T14 IP (in)
part F pins: A2 TDI (in), A15 TCK (in), B15 TMS (in), C14 TDO (out), D3 PROG_B (in), T15 DONE (io)
part G pins: A6 VCCAUX (power), A11 VCCAUX (power), B5 VCCO_0 (power), B12 VCCO_0 (power), D4 VCCINT (power), D13 VCCINT (power), E2 VCCO_3 (power), E5 VCCINT (power), E12 VCCINT (power), E15 VCCO_1 (power), F1 VCCAUX (power), F7 VCCO_0 (power), F10 VCCO_0 (power), F16 VCCAUX (power), G6 VCCO_3 (power), G11 VCCO_1 (power), K6 VCCO_3 (power), K11 VCCO_1 (power), L1 VCCAUX (power), L7 VCCO_2 (power), L10 VCCO_2 (power), L16 VCCAUX (power), M2 VCCO_3 (power), M5 VCCINT (power), M12 VCCINT (power), M15 VCCO_1 (power), N4 VCCINT (power), N13 VCCINT (power), R5 VCCO_2 (power), R12 VCCO_2 (power), T6 VCCAUX (power), T11 VCCAUX (power)
part H pins: A1 GND (power), A16 GND (power), B9 GND (power), F6 GND (power), F11 GND (power), G7 GND (power), G8 GND (power), G9 GND (power), G10 GND (power), H2 GND (power), H7 GND (power), H8 GND (power), H9 GND (power), H10 GND (power), J7 GND (power), J8 GND (power), J9 GND (power), J10 GND (power), J15 GND (power), K7 GND (power), K8 GND (power), K9 GND (power), K10 GND (power), L6 GND (power), L11 GND (power), R8 GND (power), T1 GND (power), T16 GND (power)
part A text: BANK 0
part B text: BANK 1
part C text: BANK 2
part D text: BANK 3

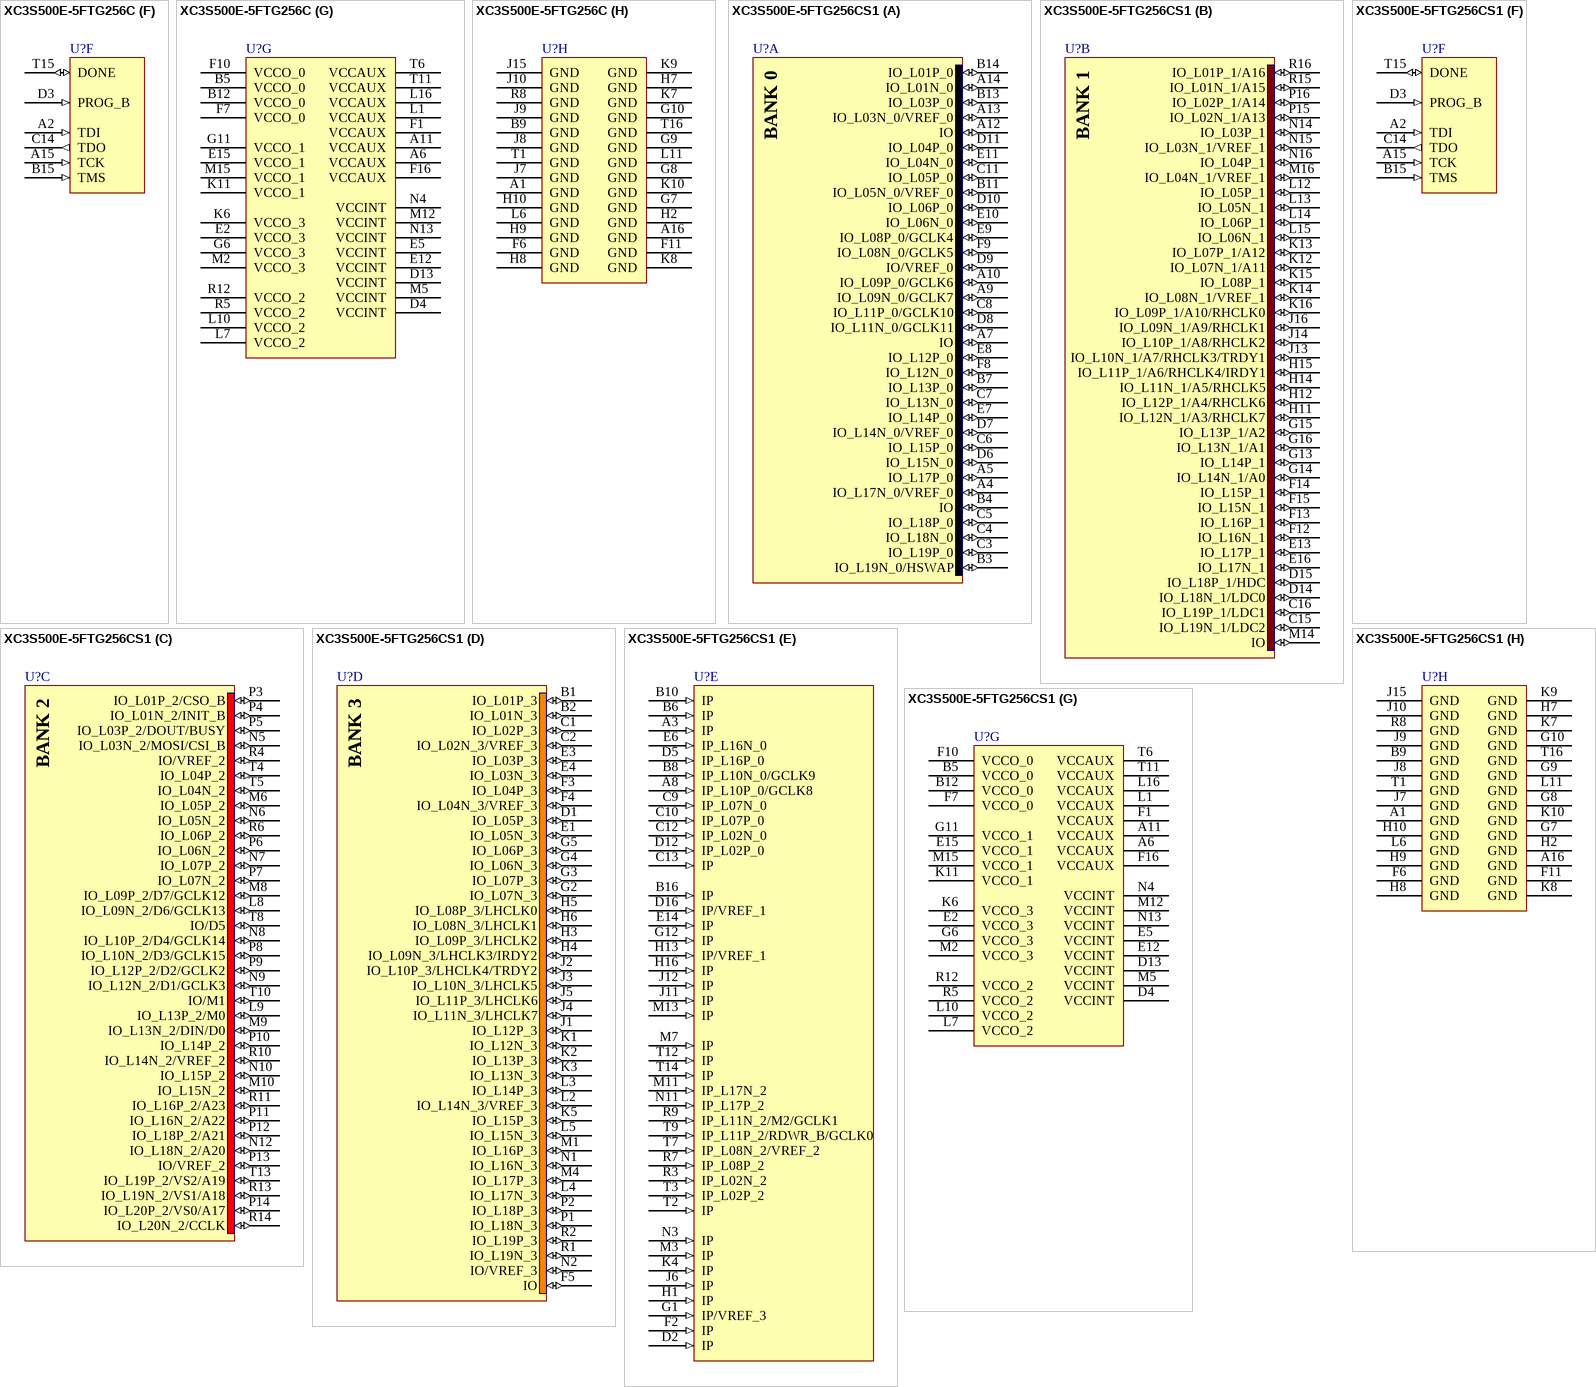
[diagram p88: symbols XC3S500E-5FTG256C to XC3S500E-5FTG256CS1]